# Altium schematic symbol library MCU_Microchip_PIC16.SchLib: 252 symbols (part 2 of 5)
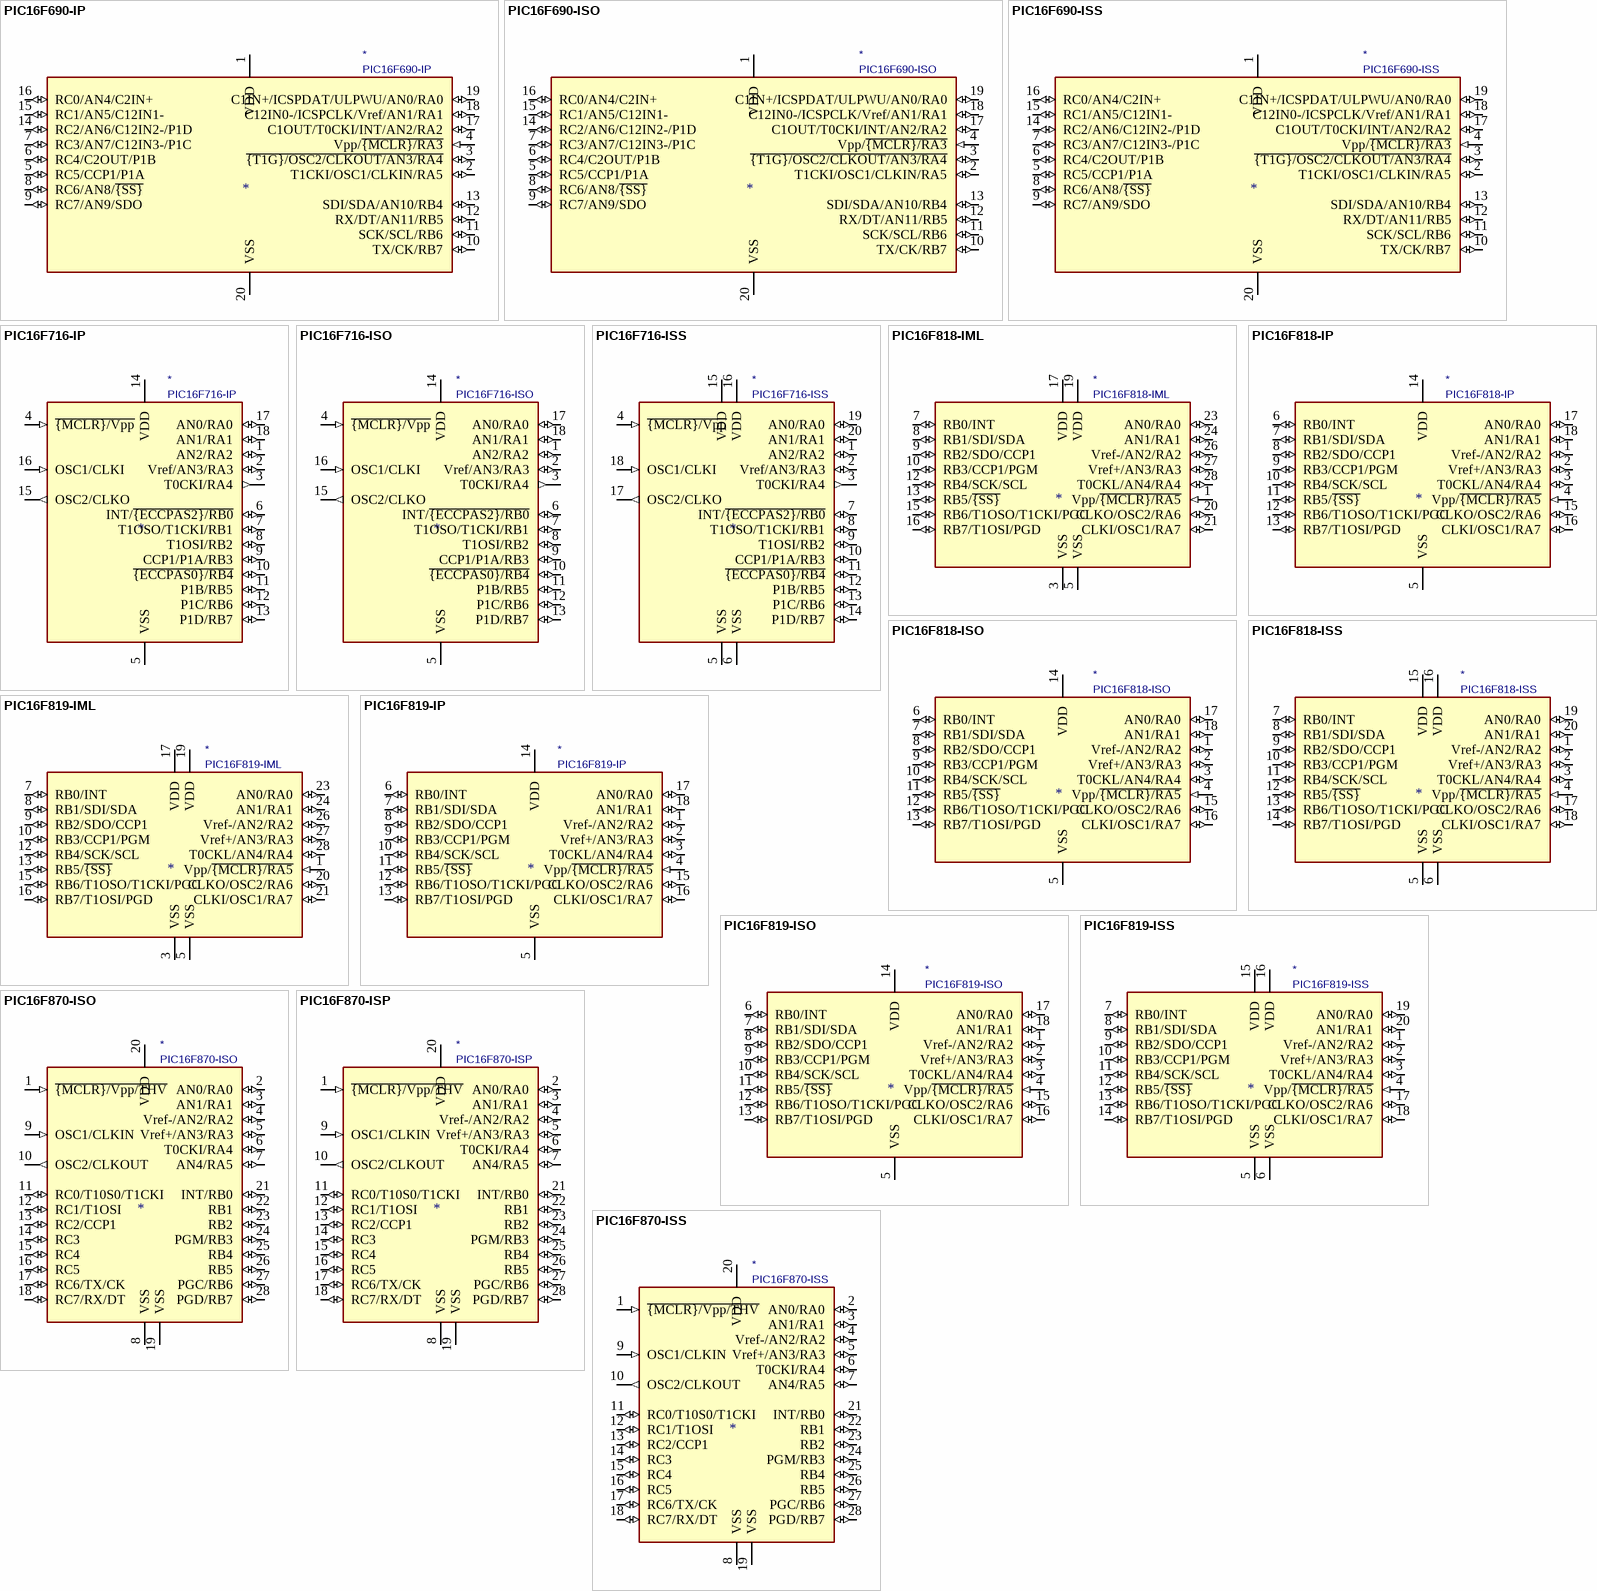
[diagram p19: symbols PIC16F690-IP to PIC16F870-ISS]

## PIC16F818-ISS
designator *  value PIC16F818-ISS
ki_keywords: Flash-Based 8-Bit Microcontroller nanoWatt; ki_description: PIC16F818, 1792B Flash, 128B SRAM, 128B EEPROM, ADC, SSSOP20; ki_fp_filters: SSOP*; Supplier: http://ww1.microchip.com/downloads/en/DeviceDoc/39598F.pdf
pins: 1 Vref-/AN2/RA2 (io), 2 Vref+/AN3/RA3 (io), 3 T0CKL/AN4/RA4 (io), 4 Vpp/~{{MCLR}/RA5} (in), 5 VSS (power), 6 VSS (power), 7 RB0/INT (io), 8 RB1/SDI/SDA (io), 9 RB2/SDO/CCP1 (io), 10 RB3/CCP1/PGM (io), 11 RB4/SCK/SCL (io), 12 RB5/~{{SS}} (io), 13 RB6/T1OSO/T1CKI/PGC (io), 14 RB7/T1OSI/PGD (io), 15 VDD (power), 16 VDD (power), 17 CLKO/OSC2/RA6 (io), 18 CLKI/OSC1/RA7 (io), 19 AN0/RA0 (io), 20 AN1/RA1 (io)

## PIC16F819-IML
designator *  value PIC16F819-IML
ki_keywords: Flash-Based 8-Bit Microcontroller nanoWatt; ki_description: PIC16F819, 3584B Flash, 256B SRAM, 256B EEPROM, ADC, QFN28; ki_fp_filters: QFN*; Supplier: http://ww1.microchip.com/downloads/en/DeviceDoc/39598F.pdf
pins: 1 Vpp/~{{MCLR}/RA5} (in), 3 VSS (power), 5 VSS (power), 7 RB0/INT (io), 8 RB1/SDI/SDA (io), 9 RB2/SDO/CCP1 (io), 10 RB3/CCP1/PGM (io), 12 RB4/SCK/SCL (io), 13 RB5/~{{SS}} (io), 15 RB6/T1OSO/T1CKI/PGC (io), 16 RB7/T1OSI/PGD (io), 17 VDD (power), 19 VDD (power), 20 CLKO/OSC2/RA6 (io), 21 CLKI/OSC1/RA7 (io), 23 AN0/RA0 (io), 24 AN1/RA1 (io), 26 Vref-/AN2/RA2 (io), 27 Vref+/AN3/RA3 (io), 28 T0CKL/AN4/RA4 (io)

## PIC16F819-IP
designator *  value PIC16F819-IP
ki_keywords: Flash-Based 8-Bit Microcontroller nanoWatt; ki_description: 3584B Flash, 256B SRAM, 256B EEPROM, ADC, DIP18; ki_fp_filters: DIP* PDIP*; Supplier: http://ww1.microchip.com/downloads/en/DeviceDoc/39598F.pdf
pins: 1 Vref-/AN2/RA2 (io), 2 Vref+/AN3/RA3 (io), 3 T0CKL/AN4/RA4 (io), 4 Vpp/~{{MCLR}/RA5} (in), 5 VSS (power), 6 RB0/INT (io), 7 RB1/SDI/SDA (io), 8 RB2/SDO/CCP1 (io), 9 RB3/CCP1/PGM (io), 10 RB4/SCK/SCL (io), 11 RB5/~{{SS}} (io), 12 RB6/T1OSO/T1CKI/PGC (io), 13 RB7/T1OSI/PGD (io), 14 VDD (power), 15 CLKO/OSC2/RA6 (io), 16 CLKI/OSC1/RA7 (io), 17 AN0/RA0 (io), 18 AN1/RA1 (io)

## PIC16F819-ISO
designator *  value PIC16F819-ISO
ki_keywords: Flash-Based 8-Bit Microcontroller nanoWatt; ki_description: PIC16F819, 3584B Flash, 256B SRAM, 256B EEPROM, ADC, SOIC18; ki_fp_filters: SO*; Supplier: http://ww1.microchip.com/downloads/en/DeviceDoc/39598F.pdf
pins: 1 Vref-/AN2/RA2 (io), 2 Vref+/AN3/RA3 (io), 3 T0CKL/AN4/RA4 (io), 4 Vpp/~{{MCLR}/RA5} (in), 5 VSS (power), 6 RB0/INT (io), 7 RB1/SDI/SDA (io), 8 RB2/SDO/CCP1 (io), 9 RB3/CCP1/PGM (io), 10 RB4/SCK/SCL (io), 11 RB5/~{{SS}} (io), 12 RB6/T1OSO/T1CKI/PGC (io), 13 RB7/T1OSI/PGD (io), 14 VDD (power), 15 CLKO/OSC2/RA6 (io), 16 CLKI/OSC1/RA7 (io), 17 AN0/RA0 (io), 18 AN1/RA1 (io)

## PIC16F819-ISS
designator *  value PIC16F819-ISS
ki_keywords: Flash-Based 8-Bit Microcontroller nanoWatt; ki_description: PIC16F819, 3584B Flash, 256B SRAM, 256B EEPROM, ADC, SSSOP20; ki_fp_filters: SSOP*; Supplier: http://ww1.microchip.com/downloads/en/DeviceDoc/39598F.pdf
pins: 1 Vref-/AN2/RA2 (io), 2 Vref+/AN3/RA3 (io), 3 T0CKL/AN4/RA4 (io), 4 Vpp/~{{MCLR}/RA5} (in), 5 VSS (power), 6 VSS (power), 7 RB0/INT (io), 8 RB1/SDI/SDA (io), 9 RB2/SDO/CCP1 (io), 10 RB3/CCP1/PGM (io), 11 RB4/SCK/SCL (io), 12 RB5/~{{SS}} (io), 13 RB6/T1OSO/T1CKI/PGC (io), 14 RB7/T1OSI/PGD (io), 15 VDD (power), 16 VDD (power), 17 CLKO/OSC2/RA6 (io), 18 CLKI/OSC1/RA7 (io), 19 AN0/RA0 (io), 20 AN1/RA1 (io)

## PIC16F870-ISO
designator *  value PIC16F870-ISO
ki_keywords: Flash-Based 8-Bit CMOS Microcontroller; ki_description: PIC16F870, 2K Flash, 128B SRAM, 64B EEPROM, SOIC28; ki_fp_filters: SO*; Supplier: http://ww1.microchip.com/downloads/en/DeviceDoc/30569b.pdf
pins: 1 ~{{MCLR}/Vpp/THV} (in), 2 AN0/RA0 (io), 3 AN1/RA1 (io), 4 Vref-/AN2/RA2 (io), 5 Vref+/AN3/RA3 (io), 6 T0CKI/RA4 (io), 7 AN4/RA5 (io), 8 VSS (power), 9 OSC1/CLKIN (in), 10 OSC2/CLKOUT (out), 11 RC0/T10S0/T1CKI (io), 12 RC1/T1OSI (io), 13 RC2/CCP1 (io), 14 RC3 (io), 15 RC4 (io), 16 RC5 (io), 17 RC6/TX/CK (io), 18 RC7/RX/DT (io), 19 VSS (power), 20 VDD (power), 21 INT/RB0 (io), 22 RB1 (io), 23 RB2 (io), 24 PGM/RB3 (io), 25 RB4 (io), 26 RB5 (io), 27 PGC/RB6 (io), 28 PGD/RB7 (io)

## PIC16F870-ISP
designator *  value PIC16F870-ISP
ki_keywords: Flash-Based 8-Bit CMOS Microcontroller; ki_description: PIC16F870, 2K Flash, 128B SRAM, 64B EEPROM, DIP28; ki_fp_filters: DIP* PDIP*; Supplier: http://ww1.microchip.com/downloads/en/DeviceDoc/30569b.pdf
pins: 1 ~{{MCLR}/Vpp/THV} (in), 2 AN0/RA0 (io), 3 AN1/RA1 (io), 4 Vref-/AN2/RA2 (io), 5 Vref+/AN3/RA3 (io), 6 T0CKI/RA4 (io), 7 AN4/RA5 (io), 8 VSS (power), 9 OSC1/CLKIN (in), 10 OSC2/CLKOUT (out), 11 RC0/T10S0/T1CKI (io), 12 RC1/T1OSI (io), 13 RC2/CCP1 (io), 14 RC3 (io), 15 RC4 (io), 16 RC5 (io), 17 RC6/TX/CK (io), 18 RC7/RX/DT (io), 19 VSS (power), 20 VDD (power), 21 INT/RB0 (io), 22 RB1 (io), 23 RB2 (io), 24 PGM/RB3 (io), 25 RB4 (io), 26 RB5 (io), 27 PGC/RB6 (io), 28 PGD/RB7 (io)

## PIC16F870-ISS
designator *  value PIC16F870-ISS
ki_keywords: Flash-Based 8-Bit CMOS Microcontroller; ki_description: PIC16F870, 2K Flash, 128B SRAM, 64B EEPROM, SSOP28; ki_fp_filters: SSOP*; Supplier: http://ww1.microchip.com/downloads/en/DeviceDoc/30569b.pdf
pins: 1 ~{{MCLR}/Vpp/THV} (in), 2 AN0/RA0 (io), 3 AN1/RA1 (io), 4 Vref-/AN2/RA2 (io), 5 Vref+/AN3/RA3 (io), 6 T0CKI/RA4 (io), 7 AN4/RA5 (io), 8 VSS (power), 9 OSC1/CLKIN (in), 10 OSC2/CLKOUT (out), 11 RC0/T10S0/T1CKI (io), 12 RC1/T1OSI (io), 13 RC2/CCP1 (io), 14 RC3 (io), 15 RC4 (io), 16 RC5 (io), 17 RC6/TX/CK (io), 18 RC7/RX/DT (io), 19 VSS (power), 20 VDD (power), 21 INT/RB0 (io), 22 RB1 (io), 23 RB2 (io), 24 PGM/RB3 (io), 25 RB4 (io), 26 RB5 (io), 27 PGC/RB6 (io), 28 PGD/RB7 (io)

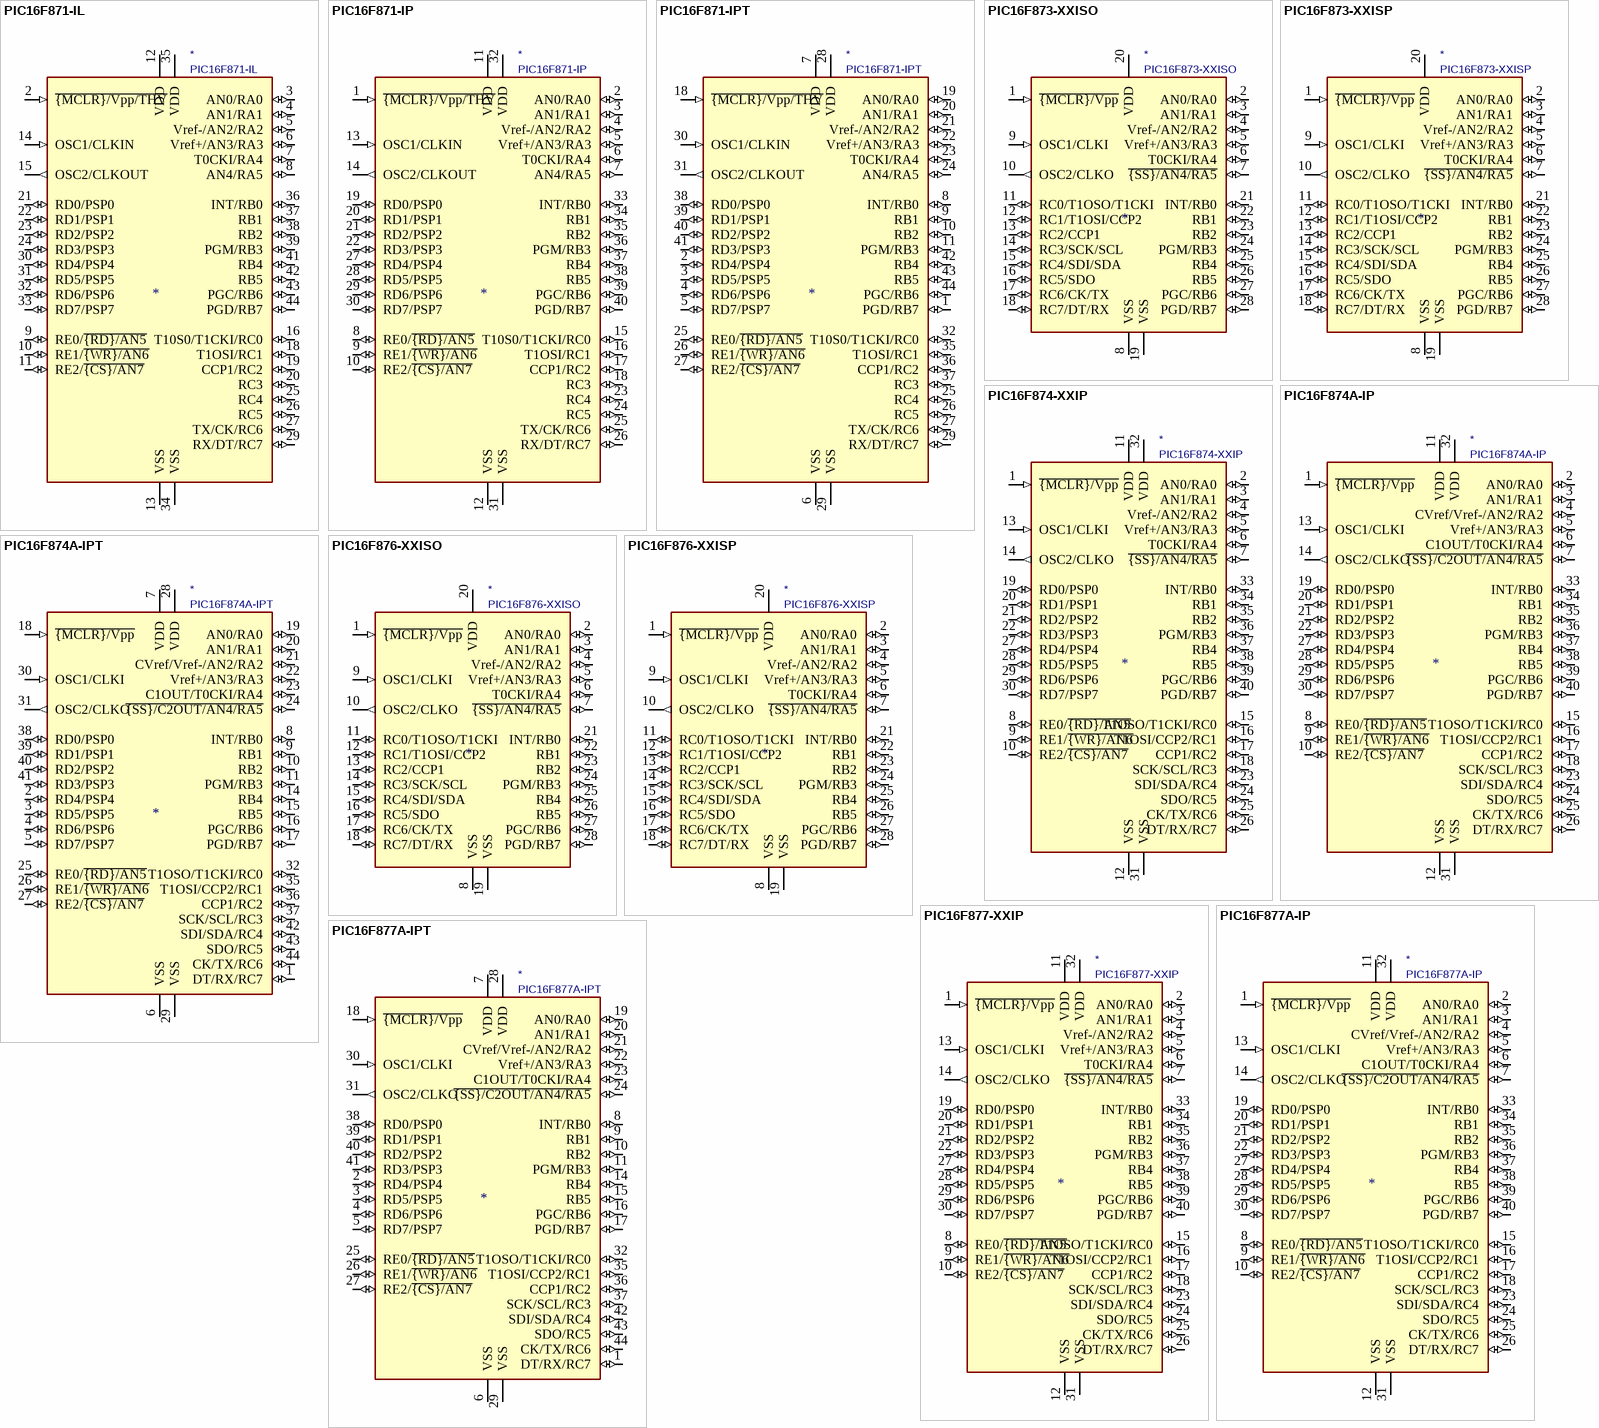
[diagram p5: symbols PIC16F871-IL to PIC16F877A-IPT]

## PIC16F871-IL
designator *  value PIC16F871-IL
ki_keywords: Flash-Based 8-Bit CMOS Microcontroller; ki_description: 2K Flash, 128B SRAM, 64B EEPROM, PLCC44; ki_fp_filters: PLCC*; Supplier: http://ww1.microchip.com/downloads/en/DeviceDoc/30569b.pdf
pins: 2 ~{{MCLR}/Vpp/THV} (in), 3 AN0/RA0 (io), 4 AN1/RA1 (io), 5 Vref-/AN2/RA2 (io), 6 Vref+/AN3/RA3 (io), 7 T0CKI/RA4 (io), 8 AN4/RA5 (io), 9 RE0/~{{RD}/AN5} (io), 10 RE1/~{{WR}/AN6} (io), 11 RE2/~{{CS}/AN7} (io), 12 VDD (power), 13 VSS (power), 14 OSC1/CLKIN (in), 15 OSC2/CLKOUT (out), 16 T10S0/T1CKI/RC0 (io), 18 T1OSI/RC1 (io), 19 CCP1/RC2 (io), 20 RC3 (io), 21 RD0/PSP0 (io), 22 RD1/PSP1 (io), 23 RD2/PSP2 (io), 24 RD3/PSP3 (io), 25 RC4 (io), 26 RC5 (io), 27 TX/CK/RC6 (io), 29 RX/DT/RC7 (io), 30 RD4/PSP4 (io), 31 RD5/PSP5 (io), 32 RD6/PSP6 (io), 33 RD7/PSP7 (io), 34 VSS (power), 35 VDD (power), 36 INT/RB0 (io), 37 RB1 (io), 38 RB2 (io), 39 PGM/RB3 (io), 41 RB4 (io), 42 RB5 (io), 43 PGC/RB6 (io), 44 PGD/RB7 (io)

## PIC16F871-IP
designator *  value PIC16F871-IP
ki_keywords: Flash-Based 8-Bit CMOS Microcontroller; ki_description: 2K Flash, 128B SRAM, 64B EEPROM, DIP40; ki_fp_filters: DIP* PDIP*; Supplier: http://ww1.microchip.com/downloads/en/DeviceDoc/30569b.pdf
pins: 1 ~{{MCLR}/Vpp/THV} (in), 2 AN0/RA0 (io), 3 AN1/RA1 (io), 4 Vref-/AN2/RA2 (io), 5 Vref+/AN3/RA3 (io), 6 T0CKI/RA4 (io), 7 AN4/RA5 (io), 8 RE0/~{{RD}/AN5} (io), 9 RE1/~{{WR}/AN6} (io), 10 RE2/~{{CS}/AN7} (io), 11 VDD (power), 12 VSS (power), 13 OSC1/CLKIN (in), 14 OSC2/CLKOUT (out), 15 T10S0/T1CKI/RC0 (io), 16 T1OSI/RC1 (io), 17 CCP1/RC2 (io), 18 RC3 (io), 19 RD0/PSP0 (io), 20 RD1/PSP1 (io), 21 RD2/PSP2 (io), 22 RD3/PSP3 (io), 23 RC4 (io), 24 RC5 (io), 25 TX/CK/RC6 (io), 26 RX/DT/RC7 (io), 27 RD4/PSP4 (io), 28 RD5/PSP5 (io), 29 RD6/PSP6 (io), 30 RD7/PSP7 (io), 31 VSS (power), 32 VDD (power), 33 INT/RB0 (io), 34 RB1 (io), 35 RB2 (io), 36 PGM/RB3 (io), 37 RB4 (io), 38 RB5 (io), 39 PGC/RB6 (io), 40 PGD/RB7 (io)

## PIC16F871-IPT
designator *  value PIC16F871-IPT
ki_keywords: Flash-Based 8-Bit CMOS Microcontroller; ki_description: PIC16F871, 2K Flash, 128B SRAM, 64B EEPROM, TQFP44; ki_fp_filters: TQFP*; Supplier: http://ww1.microchip.com/downloads/en/DeviceDoc/30569b.pdf
pins: 1 PGD/RB7 (io), 2 RD4/PSP4 (io), 3 RD5/PSP5 (io), 4 RD6/PSP6 (io), 5 RD7/PSP7 (io), 6 VSS (power), 7 VDD (power), 8 INT/RB0 (io), 9 RB1 (io), 10 RB2 (io), 11 PGM/RB3 (io), 18 ~{{MCLR}/Vpp/THV} (in), 19 AN0/RA0 (io), 20 AN1/RA1 (io), 21 Vref-/AN2/RA2 (io), 22 Vref+/AN3/RA3 (io), 23 T0CKI/RA4 (io), 24 AN4/RA5 (io), 25 RC4 (io), 25 RE0/~{{RD}/AN5} (io), 26 RE1/~{{WR}/AN6} (io), 26 RC5 (io), 27 TX/CK/RC6 (io), 27 RE2/~{{CS}/AN7} (io), 28 VDD (power), 29 VSS (power), 29 RX/DT/RC7 (io), 30 OSC1/CLKIN (in), 31 OSC2/CLKOUT (out), 32 T10S0/T1CKI/RC0 (io), 35 T1OSI/RC1 (io), 36 CCP1/RC2 (io), 37 RC3 (io), 38 RD0/PSP0 (io), 39 RD1/PSP1 (io), 40 RD2/PSP2 (io), 41 RD3/PSP3 (io), 42 RB4 (io), 43 RB5 (io), 44 PGC/RB6 (io)

## PIC16F873-XXISO
designator *  value PIC16F873-XXISO
ki_keywords: Flash-Based 8-Bit CMOS Microcontroller; ki_description: PIC16F873, 4K Flash, 192B SRAM, 128B EEPROM, SOIC28; ki_fp_filters: SO*; Supplier: http://ww1.microchip.com/downloads/en/DeviceDoc/30292C.pdf
pins: 1 ~{{MCLR}/Vpp} (in), 2 AN0/RA0 (io), 3 AN1/RA1 (io), 4 Vref-/AN2/RA2 (io), 5 Vref+/AN3/RA3 (io), 6 T0CKI/RA4 (io), 7 ~{{SS}/AN4/RA5} (io), 8 VSS (power), 9 OSC1/CLKI (in), 10 OSC2/CLKO (out), 11 RC0/T1OSO/T1CKI (io), 12 RC1/T1OSI/CCP2 (io), 13 RC2/CCP1 (io), 14 RC3/SCK/SCL (io), 15 RC4/SDI/SDA (io), 16 RC5/SDO (io), 17 RC6/CK/TX (io), 18 RC7/DT/RX (io), 19 VSS (power), 20 VDD (power), 21 INT/RB0 (io), 22 RB1 (io), 23 RB2 (io), 24 PGM/RB3 (io), 25 RB4 (io), 26 RB5 (io), 27 PGC/RB6 (io), 28 PGD/RB7 (io)

## PIC16F873-XXISP
designator *  value PIC16F873-XXISP
ki_keywords: Flash-Based 8-Bit CMOS Microcontroller; ki_description: PIC16F873,  4K Flash, 192B SRAM, 128B EEPROM, SDIP28; ki_fp_filters: DIP* PDIP*; Supplier: http://ww1.microchip.com/downloads/en/DeviceDoc/30292C.pdf
pins: 1 ~{{MCLR}/Vpp} (in), 2 AN0/RA0 (io), 3 AN1/RA1 (io), 4 Vref-/AN2/RA2 (io), 5 Vref+/AN3/RA3 (io), 6 T0CKI/RA4 (io), 7 ~{{SS}/AN4/RA5} (io), 8 VSS (power), 9 OSC1/CLKI (in), 10 OSC2/CLKO (out), 11 RC0/T1OSO/T1CKI (io), 12 RC1/T1OSI/CCP2 (io), 13 RC2/CCP1 (io), 14 RC3/SCK/SCL (io), 15 RC4/SDI/SDA (io), 16 RC5/SDO (io), 17 RC6/CK/TX (io), 18 RC7/DT/RX (io), 19 VSS (power), 20 VDD (power), 21 INT/RB0 (io), 22 RB1 (io), 23 RB2 (io), 24 PGM/RB3 (io), 25 RB4 (io), 26 RB5 (io), 27 PGC/RB6 (io), 28 PGD/RB7 (io)

## PIC16F874-XXIP
designator *  value PIC16F874-XXIP
ki_keywords: Flash-Based 8-Bit CMOS Microcontroller; ki_description: PIC16F874, 4K Flash, 192B SRAM, 128B EEPROM, DIP40; ki_fp_filters: DIP* PDIP*; Supplier: http://ww1.microchip.com/downloads/en/DeviceDoc/30292C.pdf
pins: 1 ~{{MCLR}/Vpp} (in), 2 AN0/RA0 (io), 3 AN1/RA1 (io), 4 Vref-/AN2/RA2 (io), 5 Vref+/AN3/RA3 (io), 6 T0CKI/RA4 (io), 7 ~{{SS}/AN4/RA5} (io), 8 RE0/~{{RD}/AN5} (io), 9 RE1/~{{WR}/AN6} (io), 10 RE2/~{{CS}/AN7} (io), 11 VDD (power), 12 VSS (power), 13 OSC1/CLKI (in), 14 OSC2/CLKO (out), 15 T1OSO/T1CKI/RC0 (io), 16 T1OSI/CCP2/RC1 (io), 17 CCP1/RC2 (io), 18 SCK/SCL/RC3 (io), 19 RD0/PSP0 (io), 20 RD1/PSP1 (io), 21 RD2/PSP2 (io), 22 RD3/PSP3 (io), 23 SDI/SDA/RC4 (io), 24 SDO/RC5 (io), 25 CK/TX/RC6 (io), 26 DT/RX/RC7 (io), 27 RD4/PSP4 (io), 28 RD5/PSP5 (io), 29 RD6/PSP6 (io), 30 RD7/PSP7 (io), 31 VSS (power), 32 VDD (power), 33 INT/RB0 (io), 34 RB1 (io), 35 RB2 (io), 36 PGM/RB3 (io), 37 RB4 (io), 38 RB5 (io), 39 PGC/RB6 (io), 40 PGD/RB7 (io)

## PIC16F874A-IP
designator *  value PIC16F874A-IP
ki_keywords: Flash-Based 8-Bit CMOS Microcontroller; ki_description: 4W Flash, 192B SRAM, 128B EEPROM, DIP40; ki_fp_filters: DIP* PDIP*; Supplier: http://ww1.microchip.com/downloads/en/DeviceDoc/39582b.pdf
pins: 1 ~{{MCLR}/Vpp} (in), 2 AN0/RA0 (io), 3 AN1/RA1 (io), 4 CVref/Vref-/AN2/RA2 (io), 5 Vref+/AN3/RA3 (io), 6 C1OUT/T0CKI/RA4 (io), 7 ~{{SS}/C2OUT/AN4/RA5} (io), 8 RE0/~{{RD}/AN5} (io), 9 RE1/~{{WR}/AN6} (io), 10 RE2/~{{CS}/AN7} (io), 11 VDD (power), 12 VSS (power), 13 OSC1/CLKI (in), 14 OSC2/CLKO (out), 15 T1OSO/T1CKI/RC0 (io), 16 T1OSI/CCP2/RC1 (io), 17 CCP1/RC2 (io), 18 SCK/SCL/RC3 (io), 19 RD0/PSP0 (io), 20 RD1/PSP1 (io), 21 RD2/PSP2 (io), 22 RD3/PSP3 (io), 23 SDI/SDA/RC4 (io), 24 SDO/RC5 (io), 25 CK/TX/RC6 (io), 26 DT/RX/RC7 (io), 27 RD4/PSP4 (io), 28 RD5/PSP5 (io), 29 RD6/PSP6 (io), 30 RD7/PSP7 (io), 31 VSS (power), 32 VDD (power), 33 INT/RB0 (io), 34 RB1 (io), 35 RB2 (io), 36 PGM/RB3 (io), 37 RB4 (io), 38 RB5 (io), 39 PGC/RB6 (io), 40 PGD/RB7 (io)

## PIC16F874A-IPT
designator *  value PIC16F874A-IPT
ki_keywords: Flash-Based 8-Bit CMOS Microcontroller; ki_description: PIC16F874A, 4W Flash, 192B SRAM, 128B EEPROM, TQFP44; ki_fp_filters: TQFP*; Supplier: http://ww1.microchip.com/downloads/en/DeviceDoc/39582b.pdf
pins: 1 DT/RX/RC7 (io), 2 RD4/PSP4 (io), 3 RD5/PSP5 (io), 4 RD6/PSP6 (io), 5 RD7/PSP7 (io), 6 VSS (power), 7 VDD (power), 8 INT/RB0 (io), 9 RB1 (io), 10 RB2 (io), 11 PGM/RB3 (io), 14 RB4 (io), 15 RB5 (io), 16 PGC/RB6 (io), 17 PGD/RB7 (io), 18 ~{{MCLR}/Vpp} (in), 19 AN0/RA0 (io), 20 AN1/RA1 (io), 21 CVref/Vref-/AN2/RA2 (io), 22 Vref+/AN3/RA3 (io), 23 C1OUT/T0CKI/RA4 (io), 24 ~{{SS}/C2OUT/AN4/RA5} (io), 25 RE0/~{{RD}/AN5} (io), 26 RE1/~{{WR}/AN6} (io), 27 RE2/~{{CS}/AN7} (io), 28 VDD (power), 29 VSS (power), 30 OSC1/CLKI (in), 31 OSC2/CLKO (out), 32 T1OSO/T1CKI/RC0 (io), 35 T1OSI/CCP2/RC1 (io), 36 CCP1/RC2 (io), 37 SCK/SCL/RC3 (io), 38 RD0/PSP0 (io), 39 RD1/PSP1 (io), 40 RD2/PSP2 (io), 41 RD3/PSP3 (io), 42 SDI/SDA/RC4 (io), 43 SDO/RC5 (io), 44 CK/TX/RC6 (io)

## PIC16F876-XXISO
designator *  value PIC16F876-XXISO
ki_keywords: Flash-Based 8-Bit CMOS Microcontroller; ki_description: PIC16F876, 8K Flash, 386B SRAM, 256B EEPROM, SOIC28; ki_fp_filters: SO*; Supplier: http://ww1.microchip.com/downloads/en/DeviceDoc/30292C.pdf
pins: 1 ~{{MCLR}/Vpp} (in), 2 AN0/RA0 (io), 3 AN1/RA1 (io), 4 Vref-/AN2/RA2 (io), 5 Vref+/AN3/RA3 (io), 6 T0CKI/RA4 (io), 7 ~{{SS}/AN4/RA5} (io), 8 VSS (power), 9 OSC1/CLKI (in), 10 OSC2/CLKO (out), 11 RC0/T1OSO/T1CKI (io), 12 RC1/T1OSI/CCP2 (io), 13 RC2/CCP1 (io), 14 RC3/SCK/SCL (io), 15 RC4/SDI/SDA (io), 16 RC5/SDO (io), 17 RC6/CK/TX (io), 18 RC7/DT/RX (io), 19 VSS (power), 20 VDD (power), 21 INT/RB0 (io), 22 RB1 (io), 23 RB2 (io), 24 PGM/RB3 (io), 25 RB4 (io), 26 RB5 (io), 27 PGC/RB6 (io), 28 PGD/RB7 (io)

## PIC16F876-XXISP
designator *  value PIC16F876-XXISP
ki_keywords: Flash-Based 8-Bit CMOS Microcontroller; ki_description: PIC16F876, 8K Flash, 386B SRAM, 256B EEPROM, SDIP28; ki_fp_filters: DIP* PDIP*; Supplier: http://ww1.microchip.com/downloads/en/DeviceDoc/30292C.pdf
pins: 1 ~{{MCLR}/Vpp} (in), 2 AN0/RA0 (io), 3 AN1/RA1 (io), 4 Vref-/AN2/RA2 (io), 5 Vref+/AN3/RA3 (io), 6 T0CKI/RA4 (io), 7 ~{{SS}/AN4/RA5} (io), 8 VSS (power), 9 OSC1/CLKI (in), 10 OSC2/CLKO (out), 11 RC0/T1OSO/T1CKI (io), 12 RC1/T1OSI/CCP2 (io), 13 RC2/CCP1 (io), 14 RC3/SCK/SCL (io), 15 RC4/SDI/SDA (io), 16 RC5/SDO (io), 17 RC6/CK/TX (io), 18 RC7/DT/RX (io), 19 VSS (power), 20 VDD (power), 21 INT/RB0 (io), 22 RB1 (io), 23 RB2 (io), 24 PGM/RB3 (io), 25 RB4 (io), 26 RB5 (io), 27 PGC/RB6 (io), 28 PGD/RB7 (io)

## PIC16F877-XXIP
designator *  value PIC16F877-XXIP
ki_keywords: Flash-Based 8-Bit CMOS Microcontroller; ki_description: PIC16F877, 8K Flash, 386B SRAM, 256B EEPROM, DIP40; ki_fp_filters: DIP* PDIP*; Supplier: http://ww1.microchip.com/downloads/en/DeviceDoc/30292C.pdf
pins: 1 ~{{MCLR}/Vpp} (in), 2 AN0/RA0 (io), 3 AN1/RA1 (io), 4 Vref-/AN2/RA2 (io), 5 Vref+/AN3/RA3 (io), 6 T0CKI/RA4 (io), 7 ~{{SS}/AN4/RA5} (io), 8 RE0/~{{RD}/AN5} (io), 9 RE1/~{{WR}/AN6} (io), 10 RE2/~{{CS}/AN7} (io), 11 VDD (power), 12 VSS (power), 13 OSC1/CLKI (in), 14 OSC2/CLKO (out), 15 T1OSO/T1CKI/RC0 (io), 16 T1OSI/CCP2/RC1 (io), 17 CCP1/RC2 (io), 18 SCK/SCL/RC3 (io), 19 RD0/PSP0 (io), 20 RD1/PSP1 (io), 21 RD2/PSP2 (io), 22 RD3/PSP3 (io), 23 SDI/SDA/RC4 (io), 24 SDO/RC5 (io), 25 CK/TX/RC6 (io), 26 DT/RX/RC7 (io), 27 RD4/PSP4 (io), 28 RD5/PSP5 (io), 29 RD6/PSP6 (io), 30 RD7/PSP7 (io), 31 VSS (power), 32 VDD (power), 33 INT/RB0 (io), 34 RB1 (io), 35 RB2 (io), 36 PGM/RB3 (io), 37 RB4 (io), 38 RB5 (io), 39 PGC/RB6 (io), 40 PGD/RB7 (io)

## PIC16F877A-IP
designator *  value PIC16F877A-IP
ki_keywords: Flash-Based 8-Bit CMOS Microcontroller; ki_description: 8W Flash, 386B SRAM, 256B EEPROM, DIP40; ki_fp_filters: DIP* PDIP*; Supplier: http://ww1.microchip.com/downloads/en/DeviceDoc/39582b.pdf
pins: 1 ~{{MCLR}/Vpp} (in), 2 AN0/RA0 (io), 3 AN1/RA1 (io), 4 CVref/Vref-/AN2/RA2 (io), 5 Vref+/AN3/RA3 (io), 6 C1OUT/T0CKI/RA4 (io), 7 ~{{SS}/C2OUT/AN4/RA5} (io), 8 RE0/~{{RD}/AN5} (io), 9 RE1/~{{WR}/AN6} (io), 10 RE2/~{{CS}/AN7} (io), 11 VDD (power), 12 VSS (power), 13 OSC1/CLKI (in), 14 OSC2/CLKO (out), 15 T1OSO/T1CKI/RC0 (io), 16 T1OSI/CCP2/RC1 (io), 17 CCP1/RC2 (io), 18 SCK/SCL/RC3 (io), 19 RD0/PSP0 (io), 20 RD1/PSP1 (io), 21 RD2/PSP2 (io), 22 RD3/PSP3 (io), 23 SDI/SDA/RC4 (io), 24 SDO/RC5 (io), 25 CK/TX/RC6 (io), 26 DT/RX/RC7 (io), 27 RD4/PSP4 (io), 28 RD5/PSP5 (io), 29 RD6/PSP6 (io), 30 RD7/PSP7 (io), 31 VSS (power), 32 VDD (power), 33 INT/RB0 (io), 34 RB1 (io), 35 RB2 (io), 36 PGM/RB3 (io), 37 RB4 (io), 38 RB5 (io), 39 PGC/RB6 (io), 40 PGD/RB7 (io)

## PIC16F877A-IPT
designator *  value PIC16F877A-IPT
ki_keywords: Flash-Based 8-Bit CMOS Microcontroller; ki_description: PIC16F874A, 4W Flash, 192B SRAM, 128B EEPROM, TQFP44; ki_fp_filters: TQFP*
pins: 1 DT/RX/RC7 (io), 2 RD4/PSP4 (io), 3 RD5/PSP5 (io), 4 RD6/PSP6 (io), 5 RD7/PSP7 (io), 6 VSS (power), 7 VDD (power), 8 INT/RB0 (io), 9 RB1 (io), 10 RB2 (io), 11 PGM/RB3 (io), 14 RB4 (io), 15 RB5 (io), 16 PGC/RB6 (io), 17 PGD/RB7 (io), 18 ~{{MCLR}/Vpp} (in), 19 AN0/RA0 (io), 20 AN1/RA1 (io), 21 CVref/Vref-/AN2/RA2 (io), 22 Vref+/AN3/RA3 (io), 23 C1OUT/T0CKI/RA4 (io), 24 ~{{SS}/C2OUT/AN4/RA5} (io), 25 RE0/~{{RD}/AN5} (io), 26 RE1/~{{WR}/AN6} (io), 27 RE2/~{{CS}/AN7} (io), 28 VDD (power), 29 VSS (power), 30 OSC1/CLKI (in), 31 OSC2/CLKO (out), 32 T1OSO/T1CKI/RC0 (io), 35 T1OSI/CCP2/RC1 (io), 36 CCP1/RC2 (io), 37 SCK/SCL/RC3 (io), 38 RD0/PSP0 (io), 39 RD1/PSP1 (io), 40 RD2/PSP2 (io), 41 RD3/PSP3 (io), 42 SDI/SDA/RC4 (io), 43 SDO/RC5 (io), 44 CK/TX/RC6 (io)

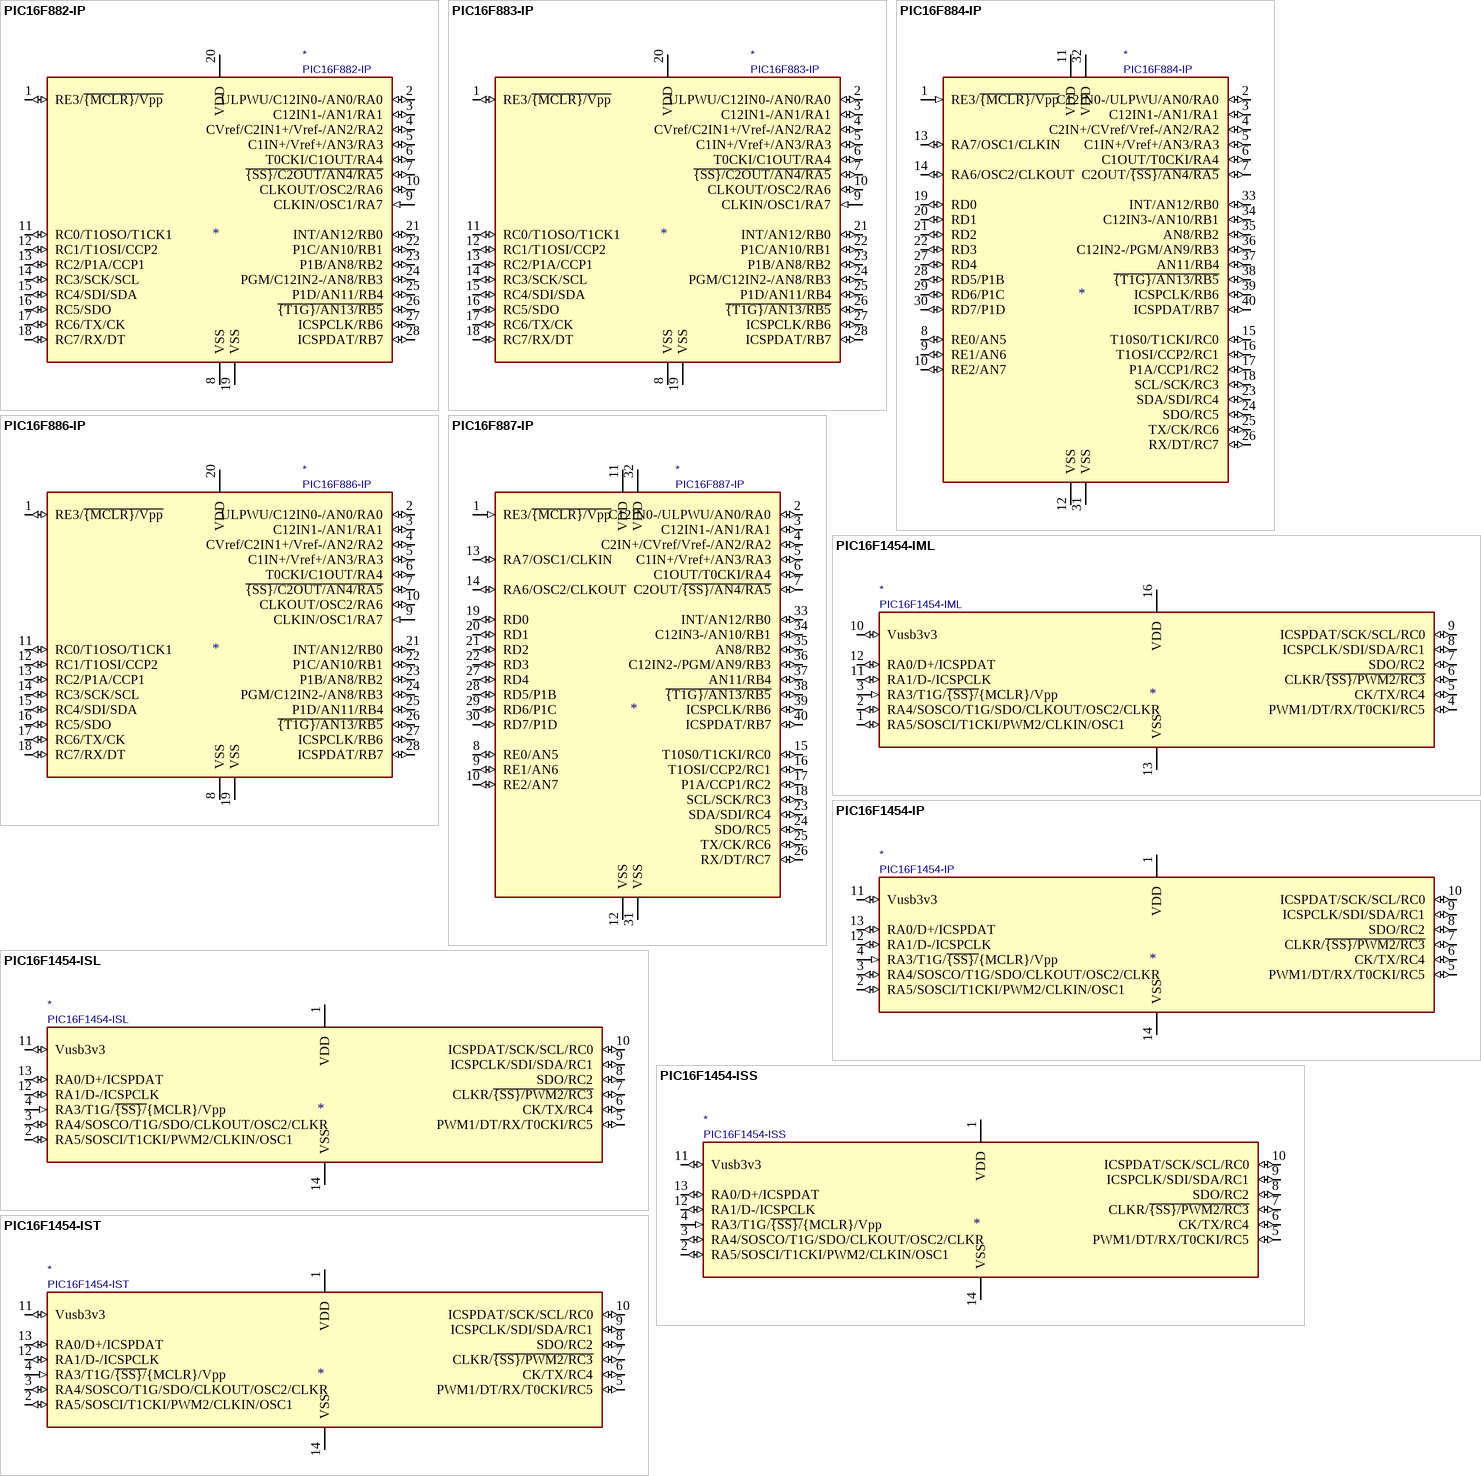
[diagram p6: symbols PIC16F882-IP to PIC16F1454-IST]

## PIC16F882-IP
designator *  value PIC16F882-IP
ki_keywords: Flash-Based 8-Bit CMOS Microcontroller; ki_description: 2K Flash, 128B SRAM, 128B EEPROM, XLP, DIP28; ki_fp_filters: DIP* PDIP*; Supplier: http://ww1.microchip.com/downloads/en/DeviceDoc/41291D.pdf
pins: 1 RE3/~{{MCLR}/Vpp} (io), 2 ULPWU/C12IN0-/AN0/RA0 (io), 3 C12IN1-/AN1/RA1 (io), 4 CVref/C2IN1+/Vref-/AN2/RA2 (io), 5 C1IN+/Vref+/AN3/RA3 (io), 6 T0CKI/C1OUT/RA4 (io), 7 ~{{SS}/C2OUT/AN4/RA5} (io), 8 VSS (power), 9 CLKIN/OSC1/RA7 (in), 10 CLKOUT/OSC2/RA6 (io), 11 RC0/T1OSO/T1CK1 (io), 12 RC1/T1OSI/CCP2 (io), 13 RC2/P1A/CCP1 (io), 14 RC3/SCK/SCL (io), 15 RC4/SDI/SDA (io), 16 RC5/SDO (io), 17 RC6/TX/CK (io), 18 RC7/RX/DT (io), 19 VSS (power), 20 VDD (power), 21 INT/AN12/RB0 (io), 22 P1C/AN10/RB1 (io), 23 P1B/AN8/RB2 (io), 24 PGM/C12IN2-/AN8/RB3 (io), 25 P1D/AN11/RB4 (io), 26 ~{{T1G}/AN13/RB5} (io), 27 ICSPCLK/RB6 (io), 28 ICSPDAT/RB7 (io)

## PIC16F883-IP
designator *  value PIC16F883-IP
ki_keywords: Flash-Based 8-Bit CMOS Microcontroller; ki_description: 4K Flash, 256B SRAM, 256B EEPROM, XLP, DIP28; ki_fp_filters: DIP* PDIP*; Supplier: http://ww1.microchip.com/downloads/en/DeviceDoc/41291D.pdf
pins: 1 RE3/~{{MCLR}/Vpp} (io), 2 ULPWU/C12IN0-/AN0/RA0 (io), 3 C12IN1-/AN1/RA1 (io), 4 CVref/C2IN1+/Vref-/AN2/RA2 (io), 5 C1IN+/Vref+/AN3/RA3 (io), 6 T0CKI/C1OUT/RA4 (io), 7 ~{{SS}/C2OUT/AN4/RA5} (io), 8 VSS (power), 9 CLKIN/OSC1/RA7 (in), 10 CLKOUT/OSC2/RA6 (io), 11 RC0/T1OSO/T1CK1 (io), 12 RC1/T1OSI/CCP2 (io), 13 RC2/P1A/CCP1 (io), 14 RC3/SCK/SCL (io), 15 RC4/SDI/SDA (io), 16 RC5/SDO (io), 17 RC6/TX/CK (io), 18 RC7/RX/DT (io), 19 VSS (power), 20 VDD (power), 21 INT/AN12/RB0 (io), 22 P1C/AN10/RB1 (io), 23 P1B/AN8/RB2 (io), 24 PGM/C12IN2-/AN8/RB3 (io), 25 P1D/AN11/RB4 (io), 26 ~{{T1G}/AN13/RB5} (io), 27 ICSPCLK/RB6 (io), 28 ICSPDAT/RB7 (io)

## PIC16F884-IP
designator *  value PIC16F884-IP
ki_keywords: Flash-Based 8-Bit CMOS Microcontroller; ki_description: 4K Flash, 256B SRAM, 256B EEPROM, DIP40; ki_fp_filters: DIP* PDIP*; Supplier: http://ww1.microchip.com/downloads/en/DeviceDoc/41291D.pdf
pins: 1 RE3/~{{MCLR}/Vpp} (in), 2 C12IN0-/ULPWU/AN0/RA0 (io), 3 C12IN1-/AN1/RA1 (io), 4 C2IN+/CVref/Vref-/AN2/RA2 (io), 5 C1IN+/Vref+/AN3/RA3 (io), 6 C1OUT/T0CKI/RA4 (io), 7 C2OUT/~{{SS}/AN4/RA5} (io), 8 RE0/AN5 (io), 9 RE1/AN6 (io), 10 RE2/AN7 (io), 11 VDD (power), 12 VSS (power), 13 RA7/OSC1/CLKIN (io), 14 RA6/OSC2/CLKOUT (io), 15 T10S0/T1CKI/RC0 (io), 16 T1OSI/CCP2/RC1 (io), 17 P1A/CCP1/RC2 (io), 18 SCL/SCK/RC3 (io), 19 RD0 (io), 20 RD1 (io), 21 RD2 (io), 22 RD3 (io), 23 SDA/SDI/RC4 (io), 24 SDO/RC5 (io), 25 TX/CK/RC6 (io), 26 RX/DT/RC7 (io), 27 RD4 (io), 28 RD5/P1B (io), 29 RD6/P1C (io), 30 RD7/P1D (io), 31 VSS (power), 32 VDD (power), 33 INT/AN12/RB0 (io), 34 C12IN3-/AN10/RB1 (io), 35 AN8/RB2 (io), 36 C12IN2-/PGM/AN9/RB3 (io), 37 AN11/RB4 (io), 38 ~{{T1G}/AN13/RB5} (io), 39 ICSPCLK/RB6 (io), 40 ICSPDAT/RB7 (io)

## PIC16F886-IP
designator *  value PIC16F886-IP
ki_keywords: Flash-Based 8-Bit CMOS Microcontroller; ki_description: 8K Flash, 256B SRAM, 256B EEPROM, XLP, DIP28; ki_fp_filters: DIP* PDIP*; Supplier: http://ww1.microchip.com/downloads/en/DeviceDoc/41291D.pdf
pins: 1 RE3/~{{MCLR}/Vpp} (io), 2 ULPWU/C12IN0-/AN0/RA0 (io), 3 C12IN1-/AN1/RA1 (io), 4 CVref/C2IN1+/Vref-/AN2/RA2 (io), 5 C1IN+/Vref+/AN3/RA3 (io), 6 T0CKI/C1OUT/RA4 (io), 7 ~{{SS}/C2OUT/AN4/RA5} (io), 8 VSS (power), 9 CLKIN/OSC1/RA7 (in), 10 CLKOUT/OSC2/RA6 (io), 11 RC0/T1OSO/T1CK1 (io), 12 RC1/T1OSI/CCP2 (io), 13 RC2/P1A/CCP1 (io), 14 RC3/SCK/SCL (io), 15 RC4/SDI/SDA (io), 16 RC5/SDO (io), 17 RC6/TX/CK (io), 18 RC7/RX/DT (io), 19 VSS (power), 20 VDD (power), 21 INT/AN12/RB0 (io), 22 P1C/AN10/RB1 (io), 23 P1B/AN8/RB2 (io), 24 PGM/C12IN2-/AN8/RB3 (io), 25 P1D/AN11/RB4 (io), 26 ~{{T1G}/AN13/RB5} (io), 27 ICSPCLK/RB6 (io), 28 ICSPDAT/RB7 (io)

## PIC16F887-IP
designator *  value PIC16F887-IP
ki_keywords: Flash-Based 8-Bit CMOS Microcontroller; ki_description: 8K Flash, 368B SRAM, 256B EEPROM, DIP40; ki_fp_filters: DIP* PDIP*; Supplier: http://ww1.microchip.com/downloads/en/DeviceDoc/41291D.pdf
pins: 1 RE3/~{{MCLR}/Vpp} (in), 2 C12IN0-/ULPWU/AN0/RA0 (io), 3 C12IN1-/AN1/RA1 (io), 4 C2IN+/CVref/Vref-/AN2/RA2 (io), 5 C1IN+/Vref+/AN3/RA3 (io), 6 C1OUT/T0CKI/RA4 (io), 7 C2OUT/~{{SS}/AN4/RA5} (io), 8 RE0/AN5 (io), 9 RE1/AN6 (io), 10 RE2/AN7 (io), 11 VDD (power), 12 VSS (power), 13 RA7/OSC1/CLKIN (io), 14 RA6/OSC2/CLKOUT (io), 15 T10S0/T1CKI/RC0 (io), 16 T1OSI/CCP2/RC1 (io), 17 P1A/CCP1/RC2 (io), 18 SCL/SCK/RC3 (io), 19 RD0 (io), 20 RD1 (io), 21 RD2 (io), 22 RD3 (io), 23 SDA/SDI/RC4 (io), 24 SDO/RC5 (io), 25 TX/CK/RC6 (io), 26 RX/DT/RC7 (io), 27 RD4 (io), 28 RD5/P1B (io), 29 RD6/P1C (io), 30 RD7/P1D (io), 31 VSS (power), 32 VDD (power), 33 INT/AN12/RB0 (io), 34 C12IN3-/AN10/RB1 (io), 35 AN8/RB2 (io), 36 C12IN2-/PGM/AN9/RB3 (io), 37 AN11/RB4 (io), 38 ~{{T1G}/AN13/RB5} (io), 39 ICSPCLK/RB6 (io), 40 ICSPDAT/RB7 (io)

## PIC16F1454-IML
designator *  value PIC16F1454-IML
ki_keywords: FLASH-Based 8-Bit CMOS Microcontroller Low Power; ki_description: PIC16F1454, 8192W FLASH, 1024B SRAM, QFN-16; ki_fp_filters: QFN*; Supplier: http://ww1.microchip.com/downloads/en/DeviceDoc/41639A.pdf
pins: 1 RA5/SOSCI/T1CKI/PWM2/CLKIN/OSC1 (io), 2 RA4/SOSCO/T1G/SDO/CLKOUT/OSC2/CLKR (io), 3 RA3/T1G/~{{SS}/}{MCLR}/Vpp (in), 4 PWM1/DT/RX/T0CKI/RC5 (io), 5 CK/TX/RC4 (io), 6 CLKR/~{{SS}/PWM2/RC3} (io), 7 SDO/RC2 (io), 8 ICSPCLK/SDI/SDA/RC1 (io), 9 ICSPDAT/SCK/SCL/RC0 (io), 10 Vusb3v3 (io), 11 RA1/D-/ICSPCLK (io), 12 RA0/D+/ICSPDAT (io), 13 VSS (power), 16 VDD (power)

## PIC16F1454-IP
designator *  value PIC16F1454-IP
ki_keywords: FLASH-Based 8-Bit CMOS Microcontroller Low Power; ki_description: 8192W FLASH, 1024B SRAM, PDIP-14; ki_fp_filters: DIP* PDIP* SO*; Supplier: http://ww1.microchip.com/downloads/en/DeviceDoc/41639A.pdf
pins: 1 VDD (power), 2 RA5/SOSCI/T1CKI/PWM2/CLKIN/OSC1 (io), 3 RA4/SOSCO/T1G/SDO/CLKOUT/OSC2/CLKR (io), 4 RA3/T1G/~{{SS}/}{MCLR}/Vpp (in), 5 PWM1/DT/RX/T0CKI/RC5 (io), 6 CK/TX/RC4 (io), 7 CLKR/~{{SS}/PWM2/RC3} (io), 8 SDO/RC2 (io), 9 ICSPCLK/SDI/SDA/RC1 (io), 10 ICSPDAT/SCK/SCL/RC0 (io), 11 Vusb3v3 (io), 12 RA1/D-/ICSPCLK (io), 13 RA0/D+/ICSPDAT (io), 14 VSS (power)

## PIC16F1454-ISL
designator *  value PIC16F1454-ISL
ki_keywords: FLASH-Based 8-Bit CMOS Microcontroller Low Power; ki_description: 8192W FLASH, 1024B SRAM, PDIP-14; ki_fp_filters: DIP* PDIP* SO*
pins: 1 VDD (power), 2 RA5/SOSCI/T1CKI/PWM2/CLKIN/OSC1 (io), 3 RA4/SOSCO/T1G/SDO/CLKOUT/OSC2/CLKR (io), 4 RA3/T1G/~{{SS}/}{MCLR}/Vpp (in), 5 PWM1/DT/RX/T0CKI/RC5 (io), 6 CK/TX/RC4 (io), 7 CLKR/~{{SS}/PWM2/RC3} (io), 8 SDO/RC2 (io), 9 ICSPCLK/SDI/SDA/RC1 (io), 10 ICSPDAT/SCK/SCL/RC0 (io), 11 Vusb3v3 (io), 12 RA1/D-/ICSPCLK (io), 13 RA0/D+/ICSPDAT (io), 14 VSS (power)

## PIC16F1454-ISS
designator *  value PIC16F1454-ISS
ki_keywords: FLASH-Based 8-Bit CMOS Microcontroller Low Power; ki_description: 8192W FLASH, 1024B SRAM, PDIP-14; ki_fp_filters: DIP* PDIP* SO*
pins: 1 VDD (power), 2 RA5/SOSCI/T1CKI/PWM2/CLKIN/OSC1 (io), 3 RA4/SOSCO/T1G/SDO/CLKOUT/OSC2/CLKR (io), 4 RA3/T1G/~{{SS}/}{MCLR}/Vpp (in), 5 PWM1/DT/RX/T0CKI/RC5 (io), 6 CK/TX/RC4 (io), 7 CLKR/~{{SS}/PWM2/RC3} (io), 8 SDO/RC2 (io), 9 ICSPCLK/SDI/SDA/RC1 (io), 10 ICSPDAT/SCK/SCL/RC0 (io), 11 Vusb3v3 (io), 12 RA1/D-/ICSPCLK (io), 13 RA0/D+/ICSPDAT (io), 14 VSS (power)

## PIC16F1454-IST
designator *  value PIC16F1454-IST
ki_keywords: FLASH-Based 8-Bit CMOS Microcontroller Low Power; ki_description: 8192W FLASH, 1024B SRAM, PDIP-14; ki_fp_filters: DIP* PDIP* SO*
pins: 1 VDD (power), 2 RA5/SOSCI/T1CKI/PWM2/CLKIN/OSC1 (io), 3 RA4/SOSCO/T1G/SDO/CLKOUT/OSC2/CLKR (io), 4 RA3/T1G/~{{SS}/}{MCLR}/Vpp (in), 5 PWM1/DT/RX/T0CKI/RC5 (io), 6 CK/TX/RC4 (io), 7 CLKR/~{{SS}/PWM2/RC3} (io), 8 SDO/RC2 (io), 9 ICSPCLK/SDI/SDA/RC1 (io), 10 ICSPDAT/SCK/SCL/RC0 (io), 11 Vusb3v3 (io), 12 RA1/D-/ICSPCLK (io), 13 RA0/D+/ICSPDAT (io), 14 VSS (power)

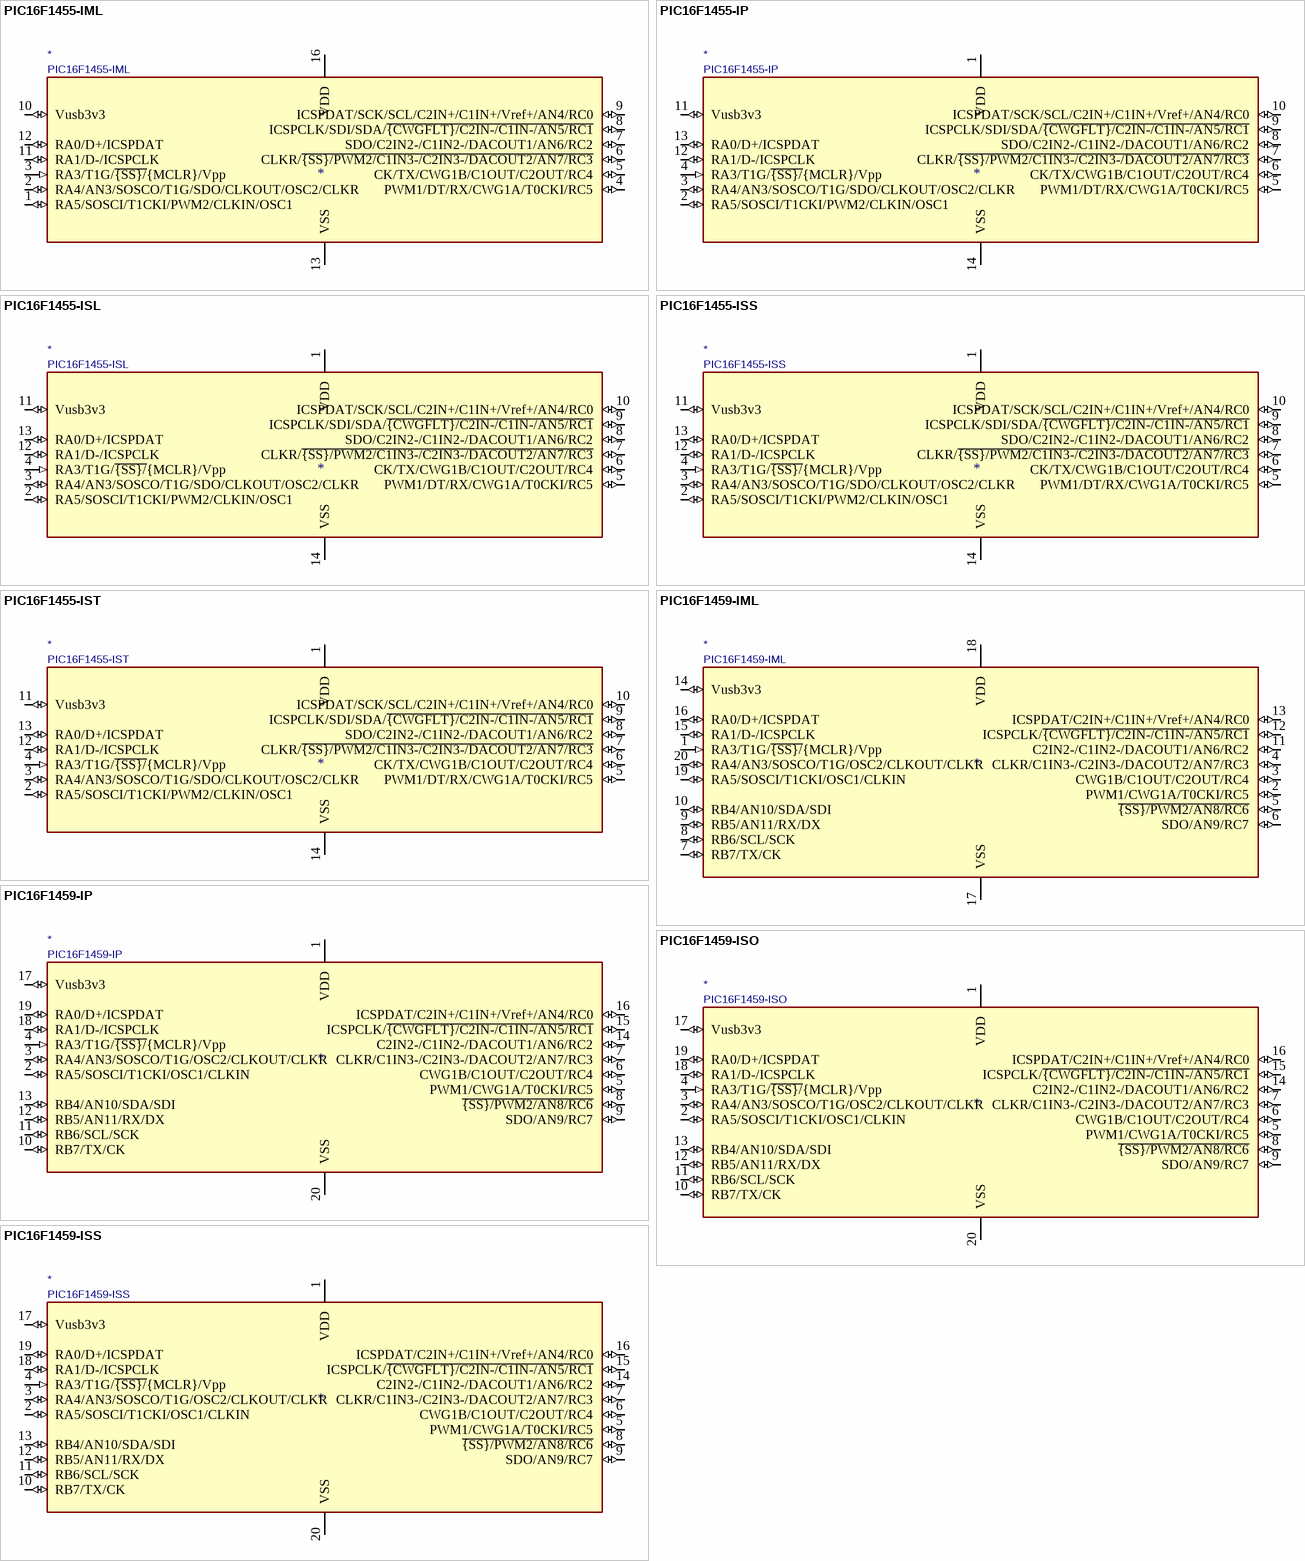
[diagram p7: symbols PIC16F1455-IML to PIC16F1459-ISS]

## PIC16F1455-IML
designator *  value PIC16F1455-IML
ki_keywords: FLASH-Based 8-Bit CMOS Microcontroller Low Power; ki_description: PIC16F1454, 8192W FLASH, 1024B SRAM, QFN-16; ki_fp_filters: QFN*; Supplier: http://ww1.microchip.com/downloads/en/DeviceDoc/41639A.pdf
pins: 1 RA5/SOSCI/T1CKI/PWM2/CLKIN/OSC1 (io), 2 RA4/AN3/SOSCO/T1G/SDO/CLKOUT/OSC2/CLKR (io), 3 RA3/T1G/~{{SS}/}{MCLR}/Vpp (in), 4 PWM1/DT/RX/CWG1A/T0CKI/RC5 (io), 5 CK/TX/CWG1B/C1OUT/C2OUT/RC4 (io), 6 CLKR/~{{SS}/PWM2/C1IN3-/C2IN3-/DACOUT2/AN7/RC3} (io), 7 SDO/C2IN2-/C1IN2-/DACOUT1/AN6/RC2 (io), 8 ICSPCLK/SDI/SDA/~{{CWGFLT}/C2IN-/C1IN-/AN5/RC1} (io), 9 ICSPDAT/SCK/SCL/C2IN+/C1IN+/Vref+/AN4/RC0 (io), 10 Vusb3v3 (io), 11 RA1/D-/ICSPCLK (io), 12 RA0/D+/ICSPDAT (io), 13 VSS (power), 16 VDD (power)

## PIC16F1455-IP
designator *  value PIC16F1455-IP
ki_keywords: FLASH-Based 8-Bit CMOS Microcontroller Low Power; ki_description: PIC16F1454, 8192W FLASH, 1024B SRAM, PDIP-14; ki_fp_filters: DIP* PDIP* SO*; Supplier: http://ww1.microchip.com/downloads/en/DeviceDoc/41639A.pdf
pins: 1 VDD (power), 2 RA5/SOSCI/T1CKI/PWM2/CLKIN/OSC1 (io), 3 RA4/AN3/SOSCO/T1G/SDO/CLKOUT/OSC2/CLKR (io), 4 RA3/T1G/~{{SS}/}{MCLR}/Vpp (in), 5 PWM1/DT/RX/CWG1A/T0CKI/RC5 (io), 6 CK/TX/CWG1B/C1OUT/C2OUT/RC4 (io), 7 CLKR/~{{SS}/PWM2/C1IN3-/C2IN3-/DACOUT2/AN7/RC3} (io), 8 SDO/C2IN2-/C1IN2-/DACOUT1/AN6/RC2 (io), 9 ICSPCLK/SDI/SDA/~{{CWGFLT}/C2IN-/C1IN-/AN5/RC1} (io), 10 ICSPDAT/SCK/SCL/C2IN+/C1IN+/Vref+/AN4/RC0 (io), 11 Vusb3v3 (io), 12 RA1/D-/ICSPCLK (io), 13 RA0/D+/ICSPDAT (io), 14 VSS (power)

## PIC16F1455-ISL
designator *  value PIC16F1455-ISL
ki_keywords: FLASH-Based 8-Bit CMOS Microcontroller Low Power; ki_description: PIC16F1454, 8192W FLASH, 1024B SRAM, PDIP-14; ki_fp_filters: DIP* PDIP* SO*
pins: 1 VDD (power), 2 RA5/SOSCI/T1CKI/PWM2/CLKIN/OSC1 (io), 3 RA4/AN3/SOSCO/T1G/SDO/CLKOUT/OSC2/CLKR (io), 4 RA3/T1G/~{{SS}/}{MCLR}/Vpp (in), 5 PWM1/DT/RX/CWG1A/T0CKI/RC5 (io), 6 CK/TX/CWG1B/C1OUT/C2OUT/RC4 (io), 7 CLKR/~{{SS}/PWM2/C1IN3-/C2IN3-/DACOUT2/AN7/RC3} (io), 8 SDO/C2IN2-/C1IN2-/DACOUT1/AN6/RC2 (io), 9 ICSPCLK/SDI/SDA/~{{CWGFLT}/C2IN-/C1IN-/AN5/RC1} (io), 10 ICSPDAT/SCK/SCL/C2IN+/C1IN+/Vref+/AN4/RC0 (io), 11 Vusb3v3 (io), 12 RA1/D-/ICSPCLK (io), 13 RA0/D+/ICSPDAT (io), 14 VSS (power)

## PIC16F1455-ISS
designator *  value PIC16F1455-ISS
ki_keywords: FLASH-Based 8-Bit CMOS Microcontroller Low Power; ki_description: PIC16F1454, 8192W FLASH, 1024B SRAM, PDIP-14; ki_fp_filters: DIP* PDIP* SO*
pins: 1 VDD (power), 2 RA5/SOSCI/T1CKI/PWM2/CLKIN/OSC1 (io), 3 RA4/AN3/SOSCO/T1G/SDO/CLKOUT/OSC2/CLKR (io), 4 RA3/T1G/~{{SS}/}{MCLR}/Vpp (in), 5 PWM1/DT/RX/CWG1A/T0CKI/RC5 (io), 6 CK/TX/CWG1B/C1OUT/C2OUT/RC4 (io), 7 CLKR/~{{SS}/PWM2/C1IN3-/C2IN3-/DACOUT2/AN7/RC3} (io), 8 SDO/C2IN2-/C1IN2-/DACOUT1/AN6/RC2 (io), 9 ICSPCLK/SDI/SDA/~{{CWGFLT}/C2IN-/C1IN-/AN5/RC1} (io), 10 ICSPDAT/SCK/SCL/C2IN+/C1IN+/Vref+/AN4/RC0 (io), 11 Vusb3v3 (io), 12 RA1/D-/ICSPCLK (io), 13 RA0/D+/ICSPDAT (io), 14 VSS (power)

## PIC16F1455-IST
designator *  value PIC16F1455-IST
ki_keywords: FLASH-Based 8-Bit CMOS Microcontroller Low Power; ki_description: PIC16F1454, 8192W FLASH, 1024B SRAM, PDIP-14; ki_fp_filters: DIP* PDIP* SO*
pins: 1 VDD (power), 2 RA5/SOSCI/T1CKI/PWM2/CLKIN/OSC1 (io), 3 RA4/AN3/SOSCO/T1G/SDO/CLKOUT/OSC2/CLKR (io), 4 RA3/T1G/~{{SS}/}{MCLR}/Vpp (in), 5 PWM1/DT/RX/CWG1A/T0CKI/RC5 (io), 6 CK/TX/CWG1B/C1OUT/C2OUT/RC4 (io), 7 CLKR/~{{SS}/PWM2/C1IN3-/C2IN3-/DACOUT2/AN7/RC3} (io), 8 SDO/C2IN2-/C1IN2-/DACOUT1/AN6/RC2 (io), 9 ICSPCLK/SDI/SDA/~{{CWGFLT}/C2IN-/C1IN-/AN5/RC1} (io), 10 ICSPDAT/SCK/SCL/C2IN+/C1IN+/Vref+/AN4/RC0 (io), 11 Vusb3v3 (io), 12 RA1/D-/ICSPCLK (io), 13 RA0/D+/ICSPDAT (io), 14 VSS (power)

## PIC16F1459-IML
designator *  value PIC16F1459-IML
ki_keywords: FLASH-Based 8-Bit CMOS Microcontroller Low Power; ki_description: PIC16F1454, 8192W FLASH, 1024B SRAM, QFN-20; ki_fp_filters: QFN*; Supplier: http://ww1.microchip.com/downloads/en/DeviceDoc/41639A.pdf
pins: 1 RA3/T1G/~{{SS}/}{MCLR}/Vpp (in), 2 PWM1/CWG1A/T0CKI/RC5 (io), 3 CWG1B/C1OUT/C2OUT/RC4 (io), 4 CLKR/C1IN3-/C2IN3-/DACOUT2/AN7/RC3 (io), 5 ~{{SS}/PWM2/AN8/RC6} (io), 6 SDO/AN9/RC7 (io), 7 RB7/TX/CK (io), 8 RB6/SCL/SCK (io), 9 RB5/AN11/RX/DX (io), 10 RB4/AN10/SDA/SDI (io), 11 C2IN2-/C1IN2-/DACOUT1/AN6/RC2 (io), 12 ICSPCLK/~{{CWGFLT}/C2IN-/C1IN-/AN5/RC1} (io), 13 ICSPDAT/C2IN+/C1IN+/Vref+/AN4/RC0 (io), 14 Vusb3v3 (io), 15 RA1/D-/ICSPCLK (io), 16 RA0/D+/ICSPDAT (io), 17 VSS (power), 18 VDD (power), 19 RA5/SOSCI/T1CKI/OSC1/CLKIN (io), 20 RA4/AN3/SOSCO/T1G/OSC2/CLKOUT/CLKR (io)

## PIC16F1459-IP
designator *  value PIC16F1459-IP
ki_keywords: FLASH-Based 8-Bit CMOS Microcontroller Low Power; ki_description: PIC16F1454, 8192W FLASH, 1024B SRAM, PDIP-20; ki_fp_filters: DIP* PDIP* SO*; Supplier: http://ww1.microchip.com/downloads/en/DeviceDoc/41639A.pdf
pins: 1 VDD (power), 2 RA5/SOSCI/T1CKI/OSC1/CLKIN (io), 3 RA4/AN3/SOSCO/T1G/OSC2/CLKOUT/CLKR (io), 4 RA3/T1G/~{{SS}/}{MCLR}/Vpp (in), 5 PWM1/CWG1A/T0CKI/RC5 (io), 6 CWG1B/C1OUT/C2OUT/RC4 (io), 7 CLKR/C1IN3-/C2IN3-/DACOUT2/AN7/RC3 (io), 8 ~{{SS}/PWM2/AN8/RC6} (io), 9 SDO/AN9/RC7 (io), 10 RB7/TX/CK (io), 11 RB6/SCL/SCK (io), 12 RB5/AN11/RX/DX (io), 13 RB4/AN10/SDA/SDI (io), 14 C2IN2-/C1IN2-/DACOUT1/AN6/RC2 (io), 15 ICSPCLK/~{{CWGFLT}/C2IN-/C1IN-/AN5/RC1} (io), 16 ICSPDAT/C2IN+/C1IN+/Vref+/AN4/RC0 (io), 17 Vusb3v3 (io), 18 RA1/D-/ICSPCLK (io), 19 RA0/D+/ICSPDAT (io), 20 VSS (power)

## PIC16F1459-ISO
designator *  value PIC16F1459-ISO
ki_keywords: FLASH-Based 8-Bit CMOS Microcontroller Low Power; ki_description: PIC16F1454, 8192W FLASH, 1024B SRAM, PDIP-20; ki_fp_filters: DIP* PDIP* SO*
pins: 1 VDD (power), 2 RA5/SOSCI/T1CKI/OSC1/CLKIN (io), 3 RA4/AN3/SOSCO/T1G/OSC2/CLKOUT/CLKR (io), 4 RA3/T1G/~{{SS}/}{MCLR}/Vpp (in), 5 PWM1/CWG1A/T0CKI/RC5 (io), 6 CWG1B/C1OUT/C2OUT/RC4 (io), 7 CLKR/C1IN3-/C2IN3-/DACOUT2/AN7/RC3 (io), 8 ~{{SS}/PWM2/AN8/RC6} (io), 9 SDO/AN9/RC7 (io), 10 RB7/TX/CK (io), 11 RB6/SCL/SCK (io), 12 RB5/AN11/RX/DX (io), 13 RB4/AN10/SDA/SDI (io), 14 C2IN2-/C1IN2-/DACOUT1/AN6/RC2 (io), 15 ICSPCLK/~{{CWGFLT}/C2IN-/C1IN-/AN5/RC1} (io), 16 ICSPDAT/C2IN+/C1IN+/Vref+/AN4/RC0 (io), 17 Vusb3v3 (io), 18 RA1/D-/ICSPCLK (io), 19 RA0/D+/ICSPDAT (io), 20 VSS (power)

## PIC16F1459-ISS
designator *  value PIC16F1459-ISS
ki_keywords: FLASH-Based 8-Bit CMOS Microcontroller Low Power; ki_description: PIC16F1454, 8192W FLASH, 1024B SRAM, PDIP-20; ki_fp_filters: DIP* PDIP* SO*
pins: 1 VDD (power), 2 RA5/SOSCI/T1CKI/OSC1/CLKIN (io), 3 RA4/AN3/SOSCO/T1G/OSC2/CLKOUT/CLKR (io), 4 RA3/T1G/~{{SS}/}{MCLR}/Vpp (in), 5 PWM1/CWG1A/T0CKI/RC5 (io), 6 CWG1B/C1OUT/C2OUT/RC4 (io), 7 CLKR/C1IN3-/C2IN3-/DACOUT2/AN7/RC3 (io), 8 ~{{SS}/PWM2/AN8/RC6} (io), 9 SDO/AN9/RC7 (io), 10 RB7/TX/CK (io), 11 RB6/SCL/SCK (io), 12 RB5/AN11/RX/DX (io), 13 RB4/AN10/SDA/SDI (io), 14 C2IN2-/C1IN2-/DACOUT1/AN6/RC2 (io), 15 ICSPCLK/~{{CWGFLT}/C2IN-/C1IN-/AN5/RC1} (io), 16 ICSPDAT/C2IN+/C1IN+/Vref+/AN4/RC0 (io), 17 Vusb3v3 (io), 18 RA1/D-/ICSPCLK (io), 19 RA0/D+/ICSPDAT (io), 20 VSS (power)

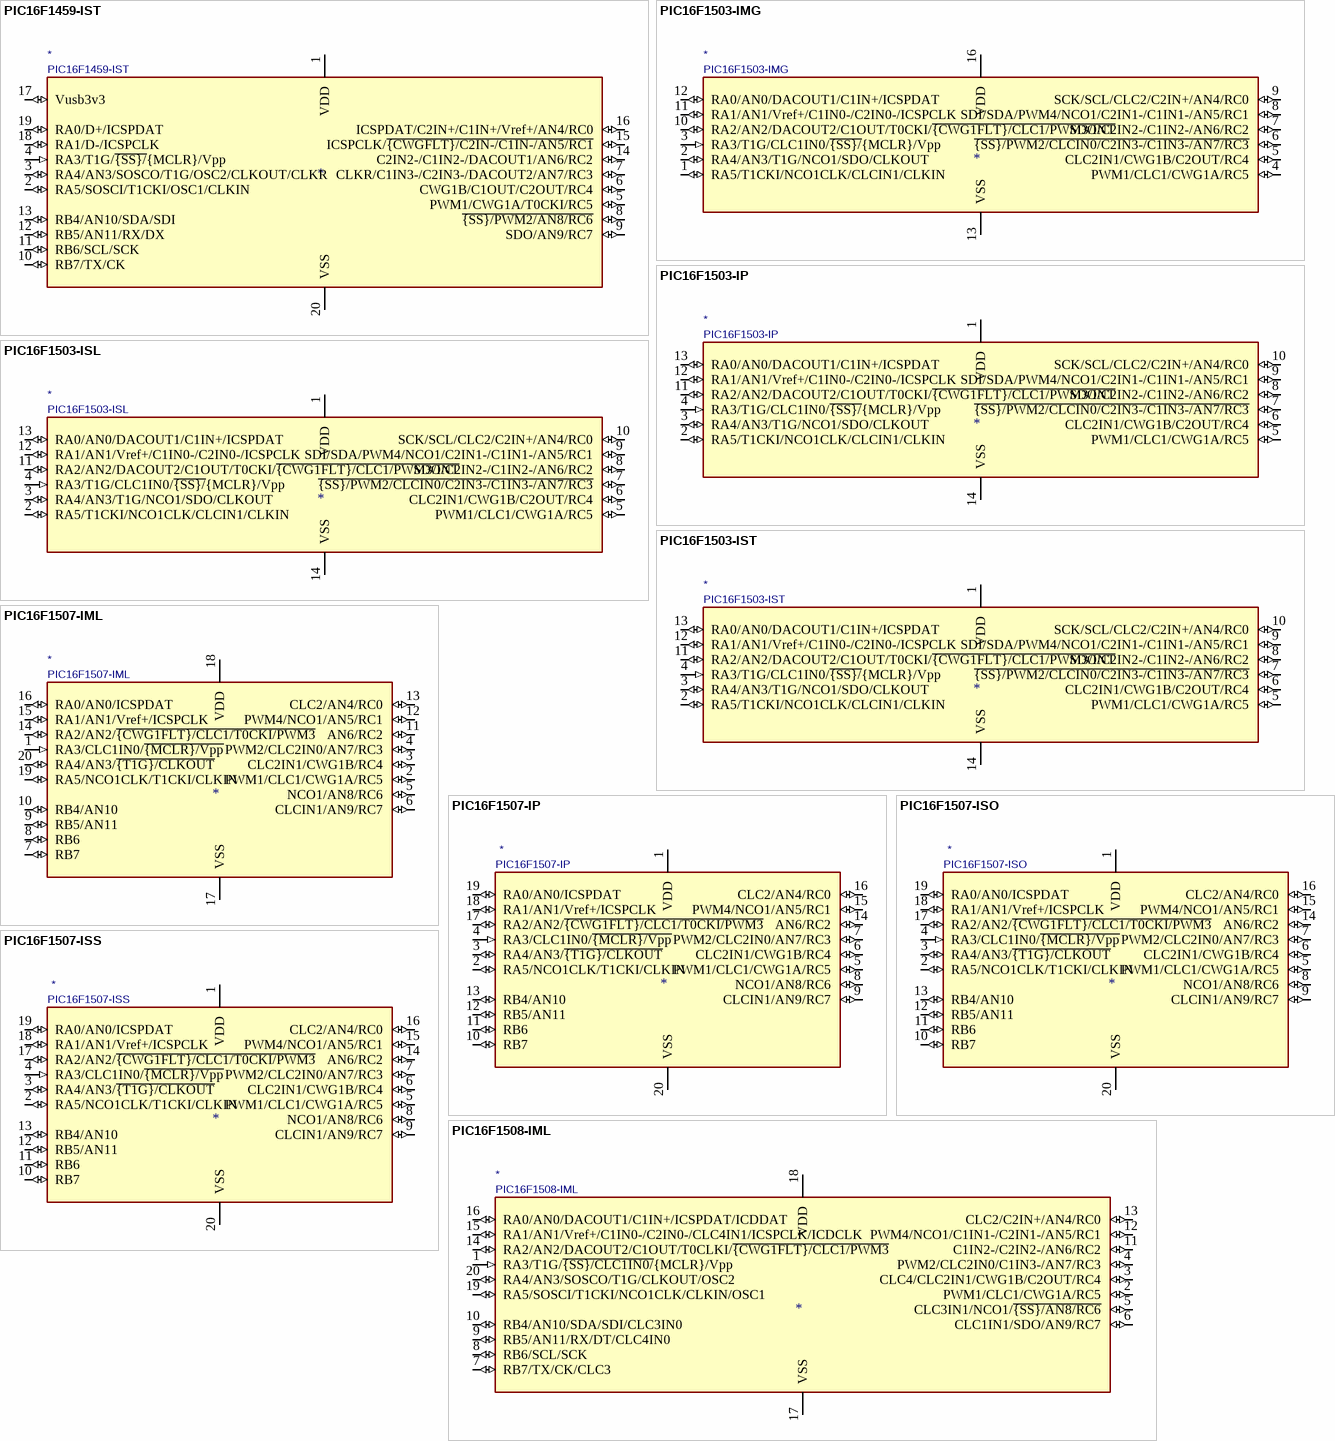
[diagram p8: symbols PIC16F1459-IST to PIC16F1508-IML]

## PIC16F1459-IST
designator *  value PIC16F1459-IST
ki_keywords: FLASH-Based 8-Bit CMOS Microcontroller Low Power; ki_description: PIC16F1454, 8192W FLASH, 1024B SRAM, PDIP-20; ki_fp_filters: DIP* PDIP* SO*
pins: 1 VDD (power), 2 RA5/SOSCI/T1CKI/OSC1/CLKIN (io), 3 RA4/AN3/SOSCO/T1G/OSC2/CLKOUT/CLKR (io), 4 RA3/T1G/~{{SS}/}{MCLR}/Vpp (in), 5 PWM1/CWG1A/T0CKI/RC5 (io), 6 CWG1B/C1OUT/C2OUT/RC4 (io), 7 CLKR/C1IN3-/C2IN3-/DACOUT2/AN7/RC3 (io), 8 ~{{SS}/PWM2/AN8/RC6} (io), 9 SDO/AN9/RC7 (io), 10 RB7/TX/CK (io), 11 RB6/SCL/SCK (io), 12 RB5/AN11/RX/DX (io), 13 RB4/AN10/SDA/SDI (io), 14 C2IN2-/C1IN2-/DACOUT1/AN6/RC2 (io), 15 ICSPCLK/~{{CWGFLT}/C2IN-/C1IN-/AN5/RC1} (io), 16 ICSPDAT/C2IN+/C1IN+/Vref+/AN4/RC0 (io), 17 Vusb3v3 (io), 18 RA1/D-/ICSPCLK (io), 19 RA0/D+/ICSPDAT (io), 20 VSS (power)

## PIC16F1503-IMG
designator *  value PIC16F1503-IMG
ki_keywords: FLASH-Based 8-Bit CMOS Microcontroller Low Power; ki_description: PIC16F1503, 2048W FLASH, 128B SRAM, QFN-16; ki_fp_filters: QFN*; Supplier: http://ww1.microchip.com/downloads/en/DeviceDoc/41607A.pdf
pins: 1 RA5/T1CKI/NCO1CLK/CLCIN1/CLKIN (io), 2 RA4/AN3/T1G/NCO1/SDO/CLKOUT (io), 3 RA3/T1G/CLC1IN0/~{{SS}/}{MCLR}/Vpp (in), 4 PWM1/CLC1/CWG1A/RC5 (io), 5 CLC2IN1/CWG1B/C2OUT/RC4 (io), 6 ~{{SS}/PWM2/CLCIN0/C2IN3-/C1IN3-/AN7/RC3} (io), 7 SDO/C2IN2-/C1IN2-/AN6/RC2 (io), 8 SDI/SDA/PWM4/NCO1/C2IN1-/C1IN1-/AN5/RC1 (io), 9 SCK/SCL/CLC2/C2IN+/AN4/RC0 (io), 10 RA2/AN2/DACOUT2/C1OUT/T0CKI/~{{CWG1FLT}/CLC1/PWM3/INT} (io), 11 RA1/AN1/Vref+/C1IN0-/C2IN0-/ICSPCLK (io), 12 RA0/AN0/DACOUT1/C1IN+/ICSPDAT (io), 13 VSS (power), 16 VDD (power)

## PIC16F1503-IP
designator *  value PIC16F1503-IP
ki_keywords: FLASH-Based 8-Bit CMOS Microcontroller Low Power; ki_description: 2048W FLASH, 128B SRAM, PDIP-14; ki_fp_filters: DIP* PDIP* SO*; Supplier: http://ww1.microchip.com/downloads/en/DeviceDoc/41607A.pdf
pins: 1 VDD (power), 2 RA5/T1CKI/NCO1CLK/CLCIN1/CLKIN (io), 3 RA4/AN3/T1G/NCO1/SDO/CLKOUT (io), 4 RA3/T1G/CLC1IN0/~{{SS}/}{MCLR}/Vpp (in), 5 PWM1/CLC1/CWG1A/RC5 (io), 6 CLC2IN1/CWG1B/C2OUT/RC4 (io), 7 ~{{SS}/PWM2/CLCIN0/C2IN3-/C1IN3-/AN7/RC3} (io), 8 SDO/C2IN2-/C1IN2-/AN6/RC2 (io), 9 SDI/SDA/PWM4/NCO1/C2IN1-/C1IN1-/AN5/RC1 (io), 10 SCK/SCL/CLC2/C2IN+/AN4/RC0 (io), 11 RA2/AN2/DACOUT2/C1OUT/T0CKI/~{{CWG1FLT}/CLC1/PWM3/INT} (io), 12 RA1/AN1/Vref+/C1IN0-/C2IN0-/ICSPCLK (io), 13 RA0/AN0/DACOUT1/C1IN+/ICSPDAT (io), 14 VSS (power)

## PIC16F1503-ISL
designator *  value PIC16F1503-ISL
ki_keywords: FLASH-Based 8-Bit CMOS Microcontroller Low Power; ki_description: PIC16F1503, 2048W FLASH, 128B SRAM, SO-14; ki_fp_filters: DIP* PDIP* SO*; Supplier: http://ww1.microchip.com/downloads/en/DeviceDoc/41607A.pdf
pins: 1 VDD (power), 2 RA5/T1CKI/NCO1CLK/CLCIN1/CLKIN (io), 3 RA4/AN3/T1G/NCO1/SDO/CLKOUT (io), 4 RA3/T1G/CLC1IN0/~{{SS}/}{MCLR}/Vpp (in), 5 PWM1/CLC1/CWG1A/RC5 (io), 6 CLC2IN1/CWG1B/C2OUT/RC4 (io), 7 ~{{SS}/PWM2/CLCIN0/C2IN3-/C1IN3-/AN7/RC3} (io), 8 SDO/C2IN2-/C1IN2-/AN6/RC2 (io), 9 SDI/SDA/PWM4/NCO1/C2IN1-/C1IN1-/AN5/RC1 (io), 10 SCK/SCL/CLC2/C2IN+/AN4/RC0 (io), 11 RA2/AN2/DACOUT2/C1OUT/T0CKI/~{{CWG1FLT}/CLC1/PWM3/INT} (io), 12 RA1/AN1/Vref+/C1IN0-/C2IN0-/ICSPCLK (io), 13 RA0/AN0/DACOUT1/C1IN+/ICSPDAT (io), 14 VSS (power)

## PIC16F1503-IST
designator *  value PIC16F1503-IST
ki_keywords: FLASH-Based 8-Bit CMOS Microcontroller Low Power; ki_description: PIC16F1503, 2048W FLASH, 128B SRAM, TSSOP-14; ki_fp_filters: DIP* PDIP* SO*; Supplier: http://ww1.microchip.com/downloads/en/DeviceDoc/41607A.pdf
pins: 1 VDD (power), 2 RA5/T1CKI/NCO1CLK/CLCIN1/CLKIN (io), 3 RA4/AN3/T1G/NCO1/SDO/CLKOUT (io), 4 RA3/T1G/CLC1IN0/~{{SS}/}{MCLR}/Vpp (in), 5 PWM1/CLC1/CWG1A/RC5 (io), 6 CLC2IN1/CWG1B/C2OUT/RC4 (io), 7 ~{{SS}/PWM2/CLCIN0/C2IN3-/C1IN3-/AN7/RC3} (io), 8 SDO/C2IN2-/C1IN2-/AN6/RC2 (io), 9 SDI/SDA/PWM4/NCO1/C2IN1-/C1IN1-/AN5/RC1 (io), 10 SCK/SCL/CLC2/C2IN+/AN4/RC0 (io), 11 RA2/AN2/DACOUT2/C1OUT/T0CKI/~{{CWG1FLT}/CLC1/PWM3/INT} (io), 12 RA1/AN1/Vref+/C1IN0-/C2IN0-/ICSPCLK (io), 13 RA0/AN0/DACOUT1/C1IN+/ICSPDAT (io), 14 VSS (power)

## PIC16F1507-IML
designator *  value PIC16F1507-IML
ki_keywords: FLASH-Based 8-Bit CMOS Microcontroller Low Power; ki_description: PIC16F1507, 2048W FLASH, 128B SRAM, QFN-20; ki_fp_filters: MLF*; Supplier: http://ww1.microchip.com/downloads/en/DeviceDoc/41586A.pdf
pins: 1 RA3/CLC1IN0/~{{MCLR}/Vpp} (in), 2 PWM1/CLC1/CWG1A/RC5 (io), 3 CLC2IN1/CWG1B/RC4 (io), 4 PWM2/CLC2IN0/AN7/RC3 (io), 5 NCO1/AN8/RC6 (io), 6 CLCIN1/AN9/RC7 (io), 7 RB7 (io), 8 RB6 (io), 9 RB5/AN11 (io), 10 RB4/AN10 (io), 11 AN6/RC2 (io), 12 PWM4/NCO1/AN5/RC1 (io), 13 CLC2/AN4/RC0 (io), 14 RA2/AN2/~{{CWG1FLT}/CLC1/T0CKI/PWM3} (io), 15 RA1/AN1/Vref+/ICSPCLK (io), 16 RA0/AN0/ICSPDAT (io), 17 VSS (power), 18 VDD (power), 19 RA5/NCO1CLK/T1CKI/CLKIN (io), 20 RA4/AN3/~{{T1G}/CLKOUT} (io)

## PIC16F1507-IP
designator *  value PIC16F1507-IP
ki_keywords: FLASH-Based 8-Bit CMOS Microcontroller Low Power; ki_description: 2048W FLASH, 128B SRAM, PDIP-20; ki_fp_filters: DIP* PDIP* SO* SSOP*; Supplier: http://ww1.microchip.com/downloads/en/DeviceDoc/41586A.pdf
pins: 1 VDD (power), 2 RA5/NCO1CLK/T1CKI/CLKIN (io), 3 RA4/AN3/~{{T1G}/CLKOUT} (io), 4 RA3/CLC1IN0/~{{MCLR}/Vpp} (in), 5 PWM1/CLC1/CWG1A/RC5 (io), 6 CLC2IN1/CWG1B/RC4 (io), 7 PWM2/CLC2IN0/AN7/RC3 (io), 8 NCO1/AN8/RC6 (io), 9 CLCIN1/AN9/RC7 (io), 10 RB7 (io), 11 RB6 (io), 12 RB5/AN11 (io), 13 RB4/AN10 (io), 14 AN6/RC2 (io), 15 PWM4/NCO1/AN5/RC1 (io), 16 CLC2/AN4/RC0 (io), 17 RA2/AN2/~{{CWG1FLT}/CLC1/T0CKI/PWM3} (io), 18 RA1/AN1/Vref+/ICSPCLK (io), 19 RA0/AN0/ICSPDAT (io), 20 VSS (power)

## PIC16F1507-ISO
designator *  value PIC16F1507-ISO
ki_keywords: FLASH-Based 8-Bit CMOS Microcontroller Low Power; ki_description: PIC16F1507, 2048W FLASH, 128B SRAM, SO-20; ki_fp_filters: DIP* PDIP* SO* SSOP*; Supplier: http://ww1.microchip.com/downloads/en/DeviceDoc/41586A.pdf
pins: 1 VDD (power), 2 RA5/NCO1CLK/T1CKI/CLKIN (io), 3 RA4/AN3/~{{T1G}/CLKOUT} (io), 4 RA3/CLC1IN0/~{{MCLR}/Vpp} (in), 5 PWM1/CLC1/CWG1A/RC5 (io), 6 CLC2IN1/CWG1B/RC4 (io), 7 PWM2/CLC2IN0/AN7/RC3 (io), 8 NCO1/AN8/RC6 (io), 9 CLCIN1/AN9/RC7 (io), 10 RB7 (io), 11 RB6 (io), 12 RB5/AN11 (io), 13 RB4/AN10 (io), 14 AN6/RC2 (io), 15 PWM4/NCO1/AN5/RC1 (io), 16 CLC2/AN4/RC0 (io), 17 RA2/AN2/~{{CWG1FLT}/CLC1/T0CKI/PWM3} (io), 18 RA1/AN1/Vref+/ICSPCLK (io), 19 RA0/AN0/ICSPDAT (io), 20 VSS (power)

## PIC16F1507-ISS
designator *  value PIC16F1507-ISS
ki_keywords: FLASH-Based 8-Bit CMOS Microcontroller Low Power; ki_description: PIC16F1507, 2048W FLASH, 128B SRAM, SSOP-20; ki_fp_filters: DIP* PDIP* SO* SSOP*; Supplier: http://ww1.microchip.com/downloads/en/DeviceDoc/41586A.pdf
pins: 1 VDD (power), 2 RA5/NCO1CLK/T1CKI/CLKIN (io), 3 RA4/AN3/~{{T1G}/CLKOUT} (io), 4 RA3/CLC1IN0/~{{MCLR}/Vpp} (in), 5 PWM1/CLC1/CWG1A/RC5 (io), 6 CLC2IN1/CWG1B/RC4 (io), 7 PWM2/CLC2IN0/AN7/RC3 (io), 8 NCO1/AN8/RC6 (io), 9 CLCIN1/AN9/RC7 (io), 10 RB7 (io), 11 RB6 (io), 12 RB5/AN11 (io), 13 RB4/AN10 (io), 14 AN6/RC2 (io), 15 PWM4/NCO1/AN5/RC1 (io), 16 CLC2/AN4/RC0 (io), 17 RA2/AN2/~{{CWG1FLT}/CLC1/T0CKI/PWM3} (io), 18 RA1/AN1/Vref+/ICSPCLK (io), 19 RA0/AN0/ICSPDAT (io), 20 VSS (power)

## PIC16F1508-IML
designator *  value PIC16F1508-IML
ki_keywords: FLASH-Based 8-Bit CMOS Microcontroller XLP; ki_description: PIC16F1508, 4096W FLASH, 256B SRAM, QFN-20; ki_fp_filters: MLF*; Supplier: http://ww1.microchip.com/downloads/en/DeviceDoc/41609A.pdf
pins: 1 RA3/T1G/~{{SS}/CLC1IN0/}{MCLR}/Vpp (in), 2 PWM1/CLC1/CWG1A/RC5 (io), 3 CLC4/CLC2IN1/CWG1B/C2OUT/RC4 (io), 4 PWM2/CLC2IN0/C1IN3-/AN7/RC3 (io), 5 CLC3IN1/NCO1/~{{SS}/AN8/RC6} (io), 6 CLC1IN1/SDO/AN9/RC7 (io), 7 RB7/TX/CK/CLC3 (io), 8 RB6/SCL/SCK (io), 9 RB5/AN11/RX/DT/CLC4IN0 (io), 10 RB4/AN10/SDA/SDI/CLC3IN0 (io), 11 C1IN2-/C2IN2-/AN6/RC2 (io), 12 PWM4/NCO1/C1IN1-/C2IN1-/AN5/RC1 (io), 13 CLC2/C2IN+/AN4/RC0 (io), 14 RA2/AN2/DACOUT2/C1OUT/T0CLKI/~{{CWG1FLT}/CLC1/PWM3} (io), 15 RA1/AN1/Vref+/C1IN0-/C2IN0-/CLC4IN1/ICSPCLK/ICDCLK (io), 16 RA0/AN0/DACOUT1/C1IN+/ICSPDAT/ICDDAT (io), 17 VSS (power), 18 VDD (power), 19 RA5/SOSCI/T1CKI/NCO1CLK/CLKIN/OSC1 (io), 20 RA4/AN3/SOSCO/T1G/CLKOUT/OSC2 (io)

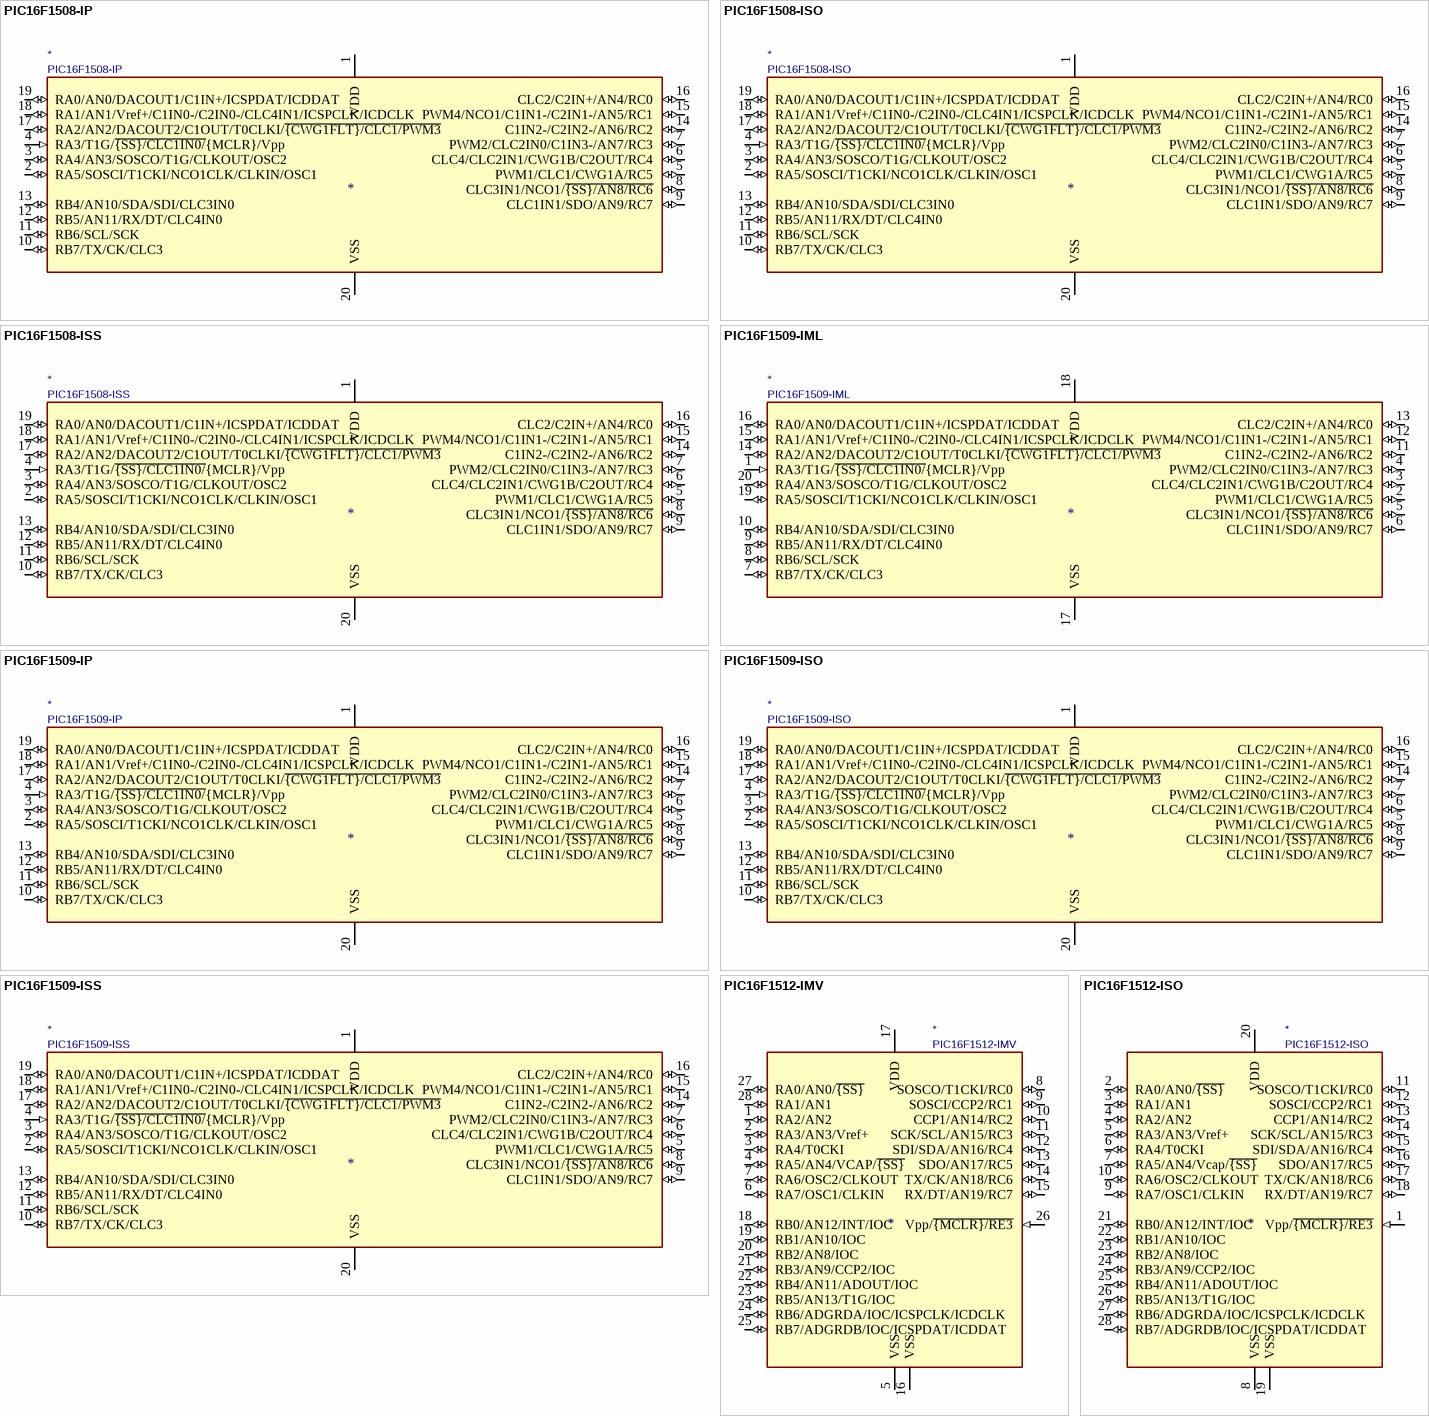
[diagram p9: symbols PIC16F1508-IP to PIC16F1512-ISO]

## PIC16F1508-IP
designator *  value PIC16F1508-IP
ki_keywords: FLASH-Based 8-Bit CMOS Microcontroller XLP; ki_description: 4096W FLASH, 256B SRAM, PDIP-20; ki_fp_filters: DIP* PDIP* SO* SSOP*; Supplier: http://ww1.microchip.com/downloads/en/DeviceDoc/41609A.pdf
pins: 1 VDD (power), 2 RA5/SOSCI/T1CKI/NCO1CLK/CLKIN/OSC1 (io), 3 RA4/AN3/SOSCO/T1G/CLKOUT/OSC2 (io), 4 RA3/T1G/~{{SS}/CLC1IN0/}{MCLR}/Vpp (in), 5 PWM1/CLC1/CWG1A/RC5 (io), 6 CLC4/CLC2IN1/CWG1B/C2OUT/RC4 (io), 7 PWM2/CLC2IN0/C1IN3-/AN7/RC3 (io), 8 CLC3IN1/NCO1/~{{SS}/AN8/RC6} (io), 9 CLC1IN1/SDO/AN9/RC7 (io), 10 RB7/TX/CK/CLC3 (io), 11 RB6/SCL/SCK (io), 12 RB5/AN11/RX/DT/CLC4IN0 (io), 13 RB4/AN10/SDA/SDI/CLC3IN0 (io), 14 C1IN2-/C2IN2-/AN6/RC2 (io), 15 PWM4/NCO1/C1IN1-/C2IN1-/AN5/RC1 (io), 16 CLC2/C2IN+/AN4/RC0 (io), 17 RA2/AN2/DACOUT2/C1OUT/T0CLKI/~{{CWG1FLT}/CLC1/PWM3} (io), 18 RA1/AN1/Vref+/C1IN0-/C2IN0-/CLC4IN1/ICSPCLK/ICDCLK (io), 19 RA0/AN0/DACOUT1/C1IN+/ICSPDAT/ICDDAT (io), 20 VSS (power)

## PIC16F1508-ISO
designator *  value PIC16F1508-ISO
ki_keywords: FLASH-Based 8-Bit CMOS Microcontroller XLP; ki_description: PIC16F1508, 4096W FLASH, 256B SRAM, SO-20; ki_fp_filters: DIP* PDIP* SO* SSOP*; Supplier: http://ww1.microchip.com/downloads/en/DeviceDoc/41609A.pdf
pins: 1 VDD (power), 2 RA5/SOSCI/T1CKI/NCO1CLK/CLKIN/OSC1 (io), 3 RA4/AN3/SOSCO/T1G/CLKOUT/OSC2 (io), 4 RA3/T1G/~{{SS}/CLC1IN0/}{MCLR}/Vpp (in), 5 PWM1/CLC1/CWG1A/RC5 (io), 6 CLC4/CLC2IN1/CWG1B/C2OUT/RC4 (io), 7 PWM2/CLC2IN0/C1IN3-/AN7/RC3 (io), 8 CLC3IN1/NCO1/~{{SS}/AN8/RC6} (io), 9 CLC1IN1/SDO/AN9/RC7 (io), 10 RB7/TX/CK/CLC3 (io), 11 RB6/SCL/SCK (io), 12 RB5/AN11/RX/DT/CLC4IN0 (io), 13 RB4/AN10/SDA/SDI/CLC3IN0 (io), 14 C1IN2-/C2IN2-/AN6/RC2 (io), 15 PWM4/NCO1/C1IN1-/C2IN1-/AN5/RC1 (io), 16 CLC2/C2IN+/AN4/RC0 (io), 17 RA2/AN2/DACOUT2/C1OUT/T0CLKI/~{{CWG1FLT}/CLC1/PWM3} (io), 18 RA1/AN1/Vref+/C1IN0-/C2IN0-/CLC4IN1/ICSPCLK/ICDCLK (io), 19 RA0/AN0/DACOUT1/C1IN+/ICSPDAT/ICDDAT (io), 20 VSS (power)

## PIC16F1508-ISS
designator *  value PIC16F1508-ISS
ki_keywords: FLASH-Based 8-Bit CMOS Microcontroller XLP; ki_description: PIC16F1508, 4096W FLASH, 256B SRAM, SSOP-20; ki_fp_filters: DIP* PDIP* SO* SSOP*; Supplier: http://ww1.microchip.com/downloads/en/DeviceDoc/41609A.pdf
pins: 1 VDD (power), 2 RA5/SOSCI/T1CKI/NCO1CLK/CLKIN/OSC1 (io), 3 RA4/AN3/SOSCO/T1G/CLKOUT/OSC2 (io), 4 RA3/T1G/~{{SS}/CLC1IN0/}{MCLR}/Vpp (in), 5 PWM1/CLC1/CWG1A/RC5 (io), 6 CLC4/CLC2IN1/CWG1B/C2OUT/RC4 (io), 7 PWM2/CLC2IN0/C1IN3-/AN7/RC3 (io), 8 CLC3IN1/NCO1/~{{SS}/AN8/RC6} (io), 9 CLC1IN1/SDO/AN9/RC7 (io), 10 RB7/TX/CK/CLC3 (io), 11 RB6/SCL/SCK (io), 12 RB5/AN11/RX/DT/CLC4IN0 (io), 13 RB4/AN10/SDA/SDI/CLC3IN0 (io), 14 C1IN2-/C2IN2-/AN6/RC2 (io), 15 PWM4/NCO1/C1IN1-/C2IN1-/AN5/RC1 (io), 16 CLC2/C2IN+/AN4/RC0 (io), 17 RA2/AN2/DACOUT2/C1OUT/T0CLKI/~{{CWG1FLT}/CLC1/PWM3} (io), 18 RA1/AN1/Vref+/C1IN0-/C2IN0-/CLC4IN1/ICSPCLK/ICDCLK (io), 19 RA0/AN0/DACOUT1/C1IN+/ICSPDAT/ICDDAT (io), 20 VSS (power)

## PIC16F1509-IML
designator *  value PIC16F1509-IML
ki_keywords: FLASH-Based 8-Bit CMOS Microcontroller XLP; ki_description: PIC16F1509, 9192W FLASH, 512B SRAM, QFN-20; ki_fp_filters: MLF*; Supplier: http://ww1.microchip.com/downloads/en/DeviceDoc/41609A.pdf
pins: 1 RA3/T1G/~{{SS}/CLC1IN0/}{MCLR}/Vpp (in), 2 PWM1/CLC1/CWG1A/RC5 (io), 3 CLC4/CLC2IN1/CWG1B/C2OUT/RC4 (io), 4 PWM2/CLC2IN0/C1IN3-/AN7/RC3 (io), 5 CLC3IN1/NCO1/~{{SS}/AN8/RC6} (io), 6 CLC1IN1/SDO/AN9/RC7 (io), 7 RB7/TX/CK/CLC3 (io), 8 RB6/SCL/SCK (io), 9 RB5/AN11/RX/DT/CLC4IN0 (io), 10 RB4/AN10/SDA/SDI/CLC3IN0 (io), 11 C1IN2-/C2IN2-/AN6/RC2 (io), 12 PWM4/NCO1/C1IN1-/C2IN1-/AN5/RC1 (io), 13 CLC2/C2IN+/AN4/RC0 (io), 14 RA2/AN2/DACOUT2/C1OUT/T0CLKI/~{{CWG1FLT}/CLC1/PWM3} (io), 15 RA1/AN1/Vref+/C1IN0-/C2IN0-/CLC4IN1/ICSPCLK/ICDCLK (io), 16 RA0/AN0/DACOUT1/C1IN+/ICSPDAT/ICDDAT (io), 17 VSS (power), 18 VDD (power), 19 RA5/SOSCI/T1CKI/NCO1CLK/CLKIN/OSC1 (io), 20 RA4/AN3/SOSCO/T1G/CLKOUT/OSC2 (io)

## PIC16F1509-IP
designator *  value PIC16F1509-IP
ki_keywords: FLASH-Based 8-Bit CMOS Microcontroller XLP; ki_description: 8192W FLASH, 512B SRAM, PDIP-20; ki_fp_filters: DIP* PDIP* SO* SSOP*; Supplier: http://ww1.microchip.com/downloads/en/DeviceDoc/41609A.pdf
pins: 1 VDD (power), 2 RA5/SOSCI/T1CKI/NCO1CLK/CLKIN/OSC1 (io), 3 RA4/AN3/SOSCO/T1G/CLKOUT/OSC2 (io), 4 RA3/T1G/~{{SS}/CLC1IN0/}{MCLR}/Vpp (in), 5 PWM1/CLC1/CWG1A/RC5 (io), 6 CLC4/CLC2IN1/CWG1B/C2OUT/RC4 (io), 7 PWM2/CLC2IN0/C1IN3-/AN7/RC3 (io), 8 CLC3IN1/NCO1/~{{SS}/AN8/RC6} (io), 9 CLC1IN1/SDO/AN9/RC7 (io), 10 RB7/TX/CK/CLC3 (io), 11 RB6/SCL/SCK (io), 12 RB5/AN11/RX/DT/CLC4IN0 (io), 13 RB4/AN10/SDA/SDI/CLC3IN0 (io), 14 C1IN2-/C2IN2-/AN6/RC2 (io), 15 PWM4/NCO1/C1IN1-/C2IN1-/AN5/RC1 (io), 16 CLC2/C2IN+/AN4/RC0 (io), 17 RA2/AN2/DACOUT2/C1OUT/T0CLKI/~{{CWG1FLT}/CLC1/PWM3} (io), 18 RA1/AN1/Vref+/C1IN0-/C2IN0-/CLC4IN1/ICSPCLK/ICDCLK (io), 19 RA0/AN0/DACOUT1/C1IN+/ICSPDAT/ICDDAT (io), 20 VSS (power)

## PIC16F1509-ISO
designator *  value PIC16F1509-ISO
ki_keywords: FLASH-Based 8-Bit CMOS Microcontroller XLP; ki_description: PIC16F1509, 8192W FLASH, 512B SRAM, SO-20; ki_fp_filters: DIP* PDIP* SO* SSOP*; Supplier: http://ww1.microchip.com/downloads/en/DeviceDoc/41609A.pdf
pins: 1 VDD (power), 2 RA5/SOSCI/T1CKI/NCO1CLK/CLKIN/OSC1 (io), 3 RA4/AN3/SOSCO/T1G/CLKOUT/OSC2 (io), 4 RA3/T1G/~{{SS}/CLC1IN0/}{MCLR}/Vpp (in), 5 PWM1/CLC1/CWG1A/RC5 (io), 6 CLC4/CLC2IN1/CWG1B/C2OUT/RC4 (io), 7 PWM2/CLC2IN0/C1IN3-/AN7/RC3 (io), 8 CLC3IN1/NCO1/~{{SS}/AN8/RC6} (io), 9 CLC1IN1/SDO/AN9/RC7 (io), 10 RB7/TX/CK/CLC3 (io), 11 RB6/SCL/SCK (io), 12 RB5/AN11/RX/DT/CLC4IN0 (io), 13 RB4/AN10/SDA/SDI/CLC3IN0 (io), 14 C1IN2-/C2IN2-/AN6/RC2 (io), 15 PWM4/NCO1/C1IN1-/C2IN1-/AN5/RC1 (io), 16 CLC2/C2IN+/AN4/RC0 (io), 17 RA2/AN2/DACOUT2/C1OUT/T0CLKI/~{{CWG1FLT}/CLC1/PWM3} (io), 18 RA1/AN1/Vref+/C1IN0-/C2IN0-/CLC4IN1/ICSPCLK/ICDCLK (io), 19 RA0/AN0/DACOUT1/C1IN+/ICSPDAT/ICDDAT (io), 20 VSS (power)

## PIC16F1509-ISS
designator *  value PIC16F1509-ISS
ki_keywords: FLASH-Based 8-Bit CMOS Microcontroller XLP; ki_description: PIC16F1509, 8192W FLASH, 512B SRAM, SSOP-20; ki_fp_filters: DIP* PDIP* SO* SSOP*; Supplier: http://ww1.microchip.com/downloads/en/DeviceDoc/41609A.pdf
pins: 1 VDD (power), 2 RA5/SOSCI/T1CKI/NCO1CLK/CLKIN/OSC1 (io), 3 RA4/AN3/SOSCO/T1G/CLKOUT/OSC2 (io), 4 RA3/T1G/~{{SS}/CLC1IN0/}{MCLR}/Vpp (in), 5 PWM1/CLC1/CWG1A/RC5 (io), 6 CLC4/CLC2IN1/CWG1B/C2OUT/RC4 (io), 7 PWM2/CLC2IN0/C1IN3-/AN7/RC3 (io), 8 CLC3IN1/NCO1/~{{SS}/AN8/RC6} (io), 9 CLC1IN1/SDO/AN9/RC7 (io), 10 RB7/TX/CK/CLC3 (io), 11 RB6/SCL/SCK (io), 12 RB5/AN11/RX/DT/CLC4IN0 (io), 13 RB4/AN10/SDA/SDI/CLC3IN0 (io), 14 C1IN2-/C2IN2-/AN6/RC2 (io), 15 PWM4/NCO1/C1IN1-/C2IN1-/AN5/RC1 (io), 16 CLC2/C2IN+/AN4/RC0 (io), 17 RA2/AN2/DACOUT2/C1OUT/T0CLKI/~{{CWG1FLT}/CLC1/PWM3} (io), 18 RA1/AN1/Vref+/C1IN0-/C2IN0-/CLC4IN1/ICSPCLK/ICDCLK (io), 19 RA0/AN0/DACOUT1/C1IN+/ICSPDAT/ICDDAT (io), 20 VSS (power)

## PIC16F1512-IMV
designator *  value PIC16F1512-IMV
ki_keywords: FLASH-Based 8-Bit CMOS Microcontroller XLP; ki_description: PIC16F1512, 2048W FLASH, 128B SRAM, UQFN-28; ki_fp_filters: UQFN*; Supplier: http://ww1.microchip.com/downloads/en/DeviceDoc/41624A.pdf
pins: 1 RA2/AN2 (io), 2 RA3/AN3/Vref+ (io), 3 RA4/T0CKI (io), 4 RA5/AN4/VCAP/~{{SS}} (io), 5 VSS (power), 6 RA7/OSC1/CLKIN (io), 7 RA6/OSC2/CLKOUT (io), 8 SOSCO/T1CKI/RC0 (io), 9 SOSCI/CCP2/RC1 (io), 10 CCP1/AN14/RC2 (io), 11 SCK/SCL/AN15/RC3 (io), 12 SDI/SDA/AN16/RC4 (io), 13 SDO/AN17/RC5 (io), 14 TX/CK/AN18/RC6 (io), 15 RX/DT/AN19/RC7 (io), 16 VSS (power), 17 VDD (power), 18 RB0/AN12/INT/IOC (io), 19 RB1/AN10/IOC (io), 20 RB2/AN8/IOC (io), 21 RB3/AN9/CCP2/IOC (io), 22 RB4/AN11/ADOUT/IOC (io), 23 RB5/AN13/T1G/IOC (io), 24 RB6/ADGRDA/IOC/ICSPCLK/ICDCLK (io), 25 RB7/ADGRDB/IOC/ICSPDAT/ICDDAT (io), 26 Vpp/~{{MCLR}/RE3} (in), 27 RA0/AN0/~{{SS}} (io), 28 RA1/AN1 (io)

## PIC16F1512-ISO
designator *  value PIC16F1512-ISO
ki_keywords: FLASH-Based 8-Bit CMOS Microcontroller XLP; ki_description: PIC16F1512, 2048W FLASH, 128B SRAM, SO-28; ki_fp_filters: DIP* PDIP* SO* SSOP*; Supplier: http://ww1.microchip.com/downloads/en/DeviceDoc/41624A.pdf
pins: 1 Vpp/~{{MCLR}/RE3} (in), 2 RA0/AN0/~{{SS}} (io), 3 RA1/AN1 (io), 4 RA2/AN2 (io), 5 RA3/AN3/Vref+ (io), 6 RA4/T0CKI (io), 7 RA5/AN4/Vcap/~{{SS}} (io), 8 VSS (power), 9 RA7/OSC1/CLKIN (io), 10 RA6/OSC2/CLKOUT (io), 11 SOSCO/T1CKI/RC0 (io), 12 SOSCI/CCP2/RC1 (io), 13 CCP1/AN14/RC2 (io), 14 SCK/SCL/AN15/RC3 (io), 15 SDI/SDA/AN16/RC4 (io), 16 SDO/AN17/RC5 (io), 17 TX/CK/AN18/RC6 (io), 18 RX/DT/AN19/RC7 (io), 19 VSS (power), 20 VDD (power), 21 RB0/AN12/INT/IOC (io), 22 RB1/AN10/IOC (io), 23 RB2/AN8/IOC (io), 24 RB3/AN9/CCP2/IOC (io), 25 RB4/AN11/ADOUT/IOC (io), 26 RB5/AN13/T1G/IOC (io), 27 RB6/ADGRDA/IOC/ICSPCLK/ICDCLK (io), 28 RB7/ADGRDB/IOC/ICSPDAT/ICDDAT (io)

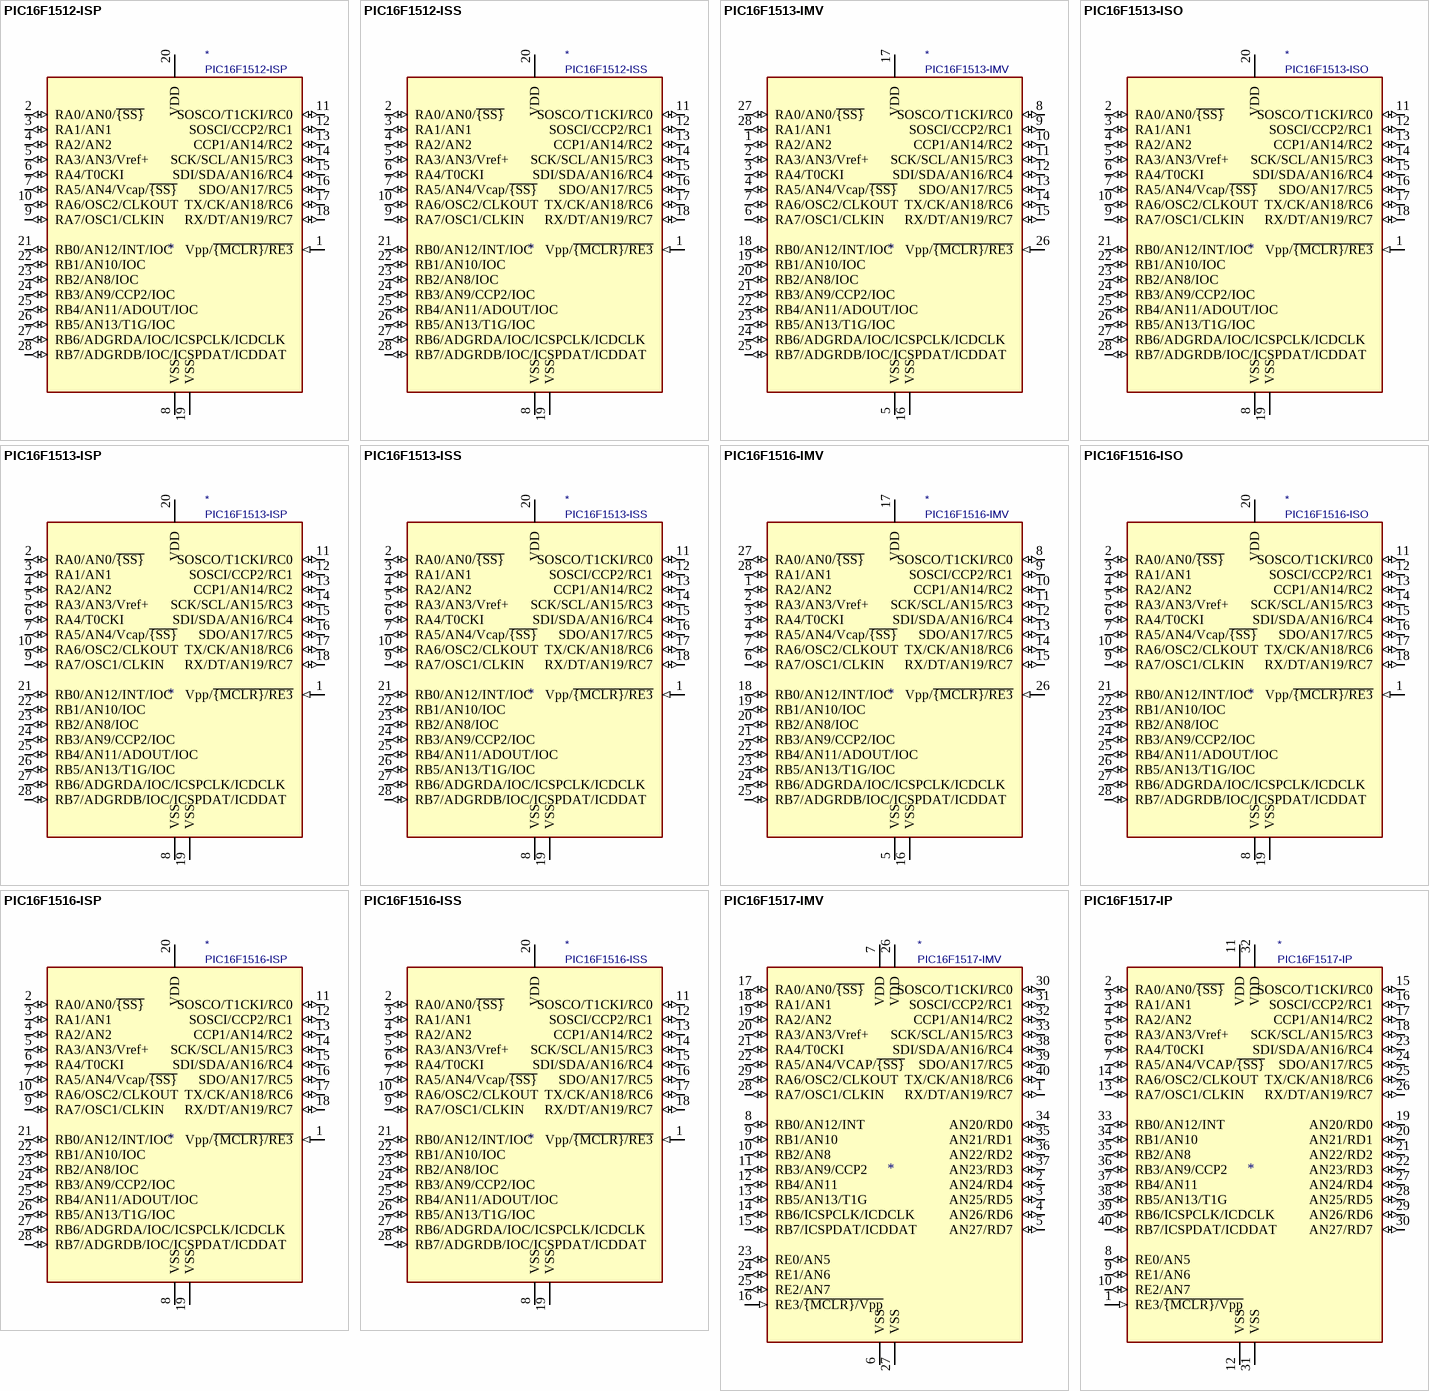
[diagram p10: symbols PIC16F1512-ISP to PIC16F1517-IP]